# Altium integrated library Atmel Microcontroller AVR UC3.IntLib: 227 symbols (part 27 of 32)
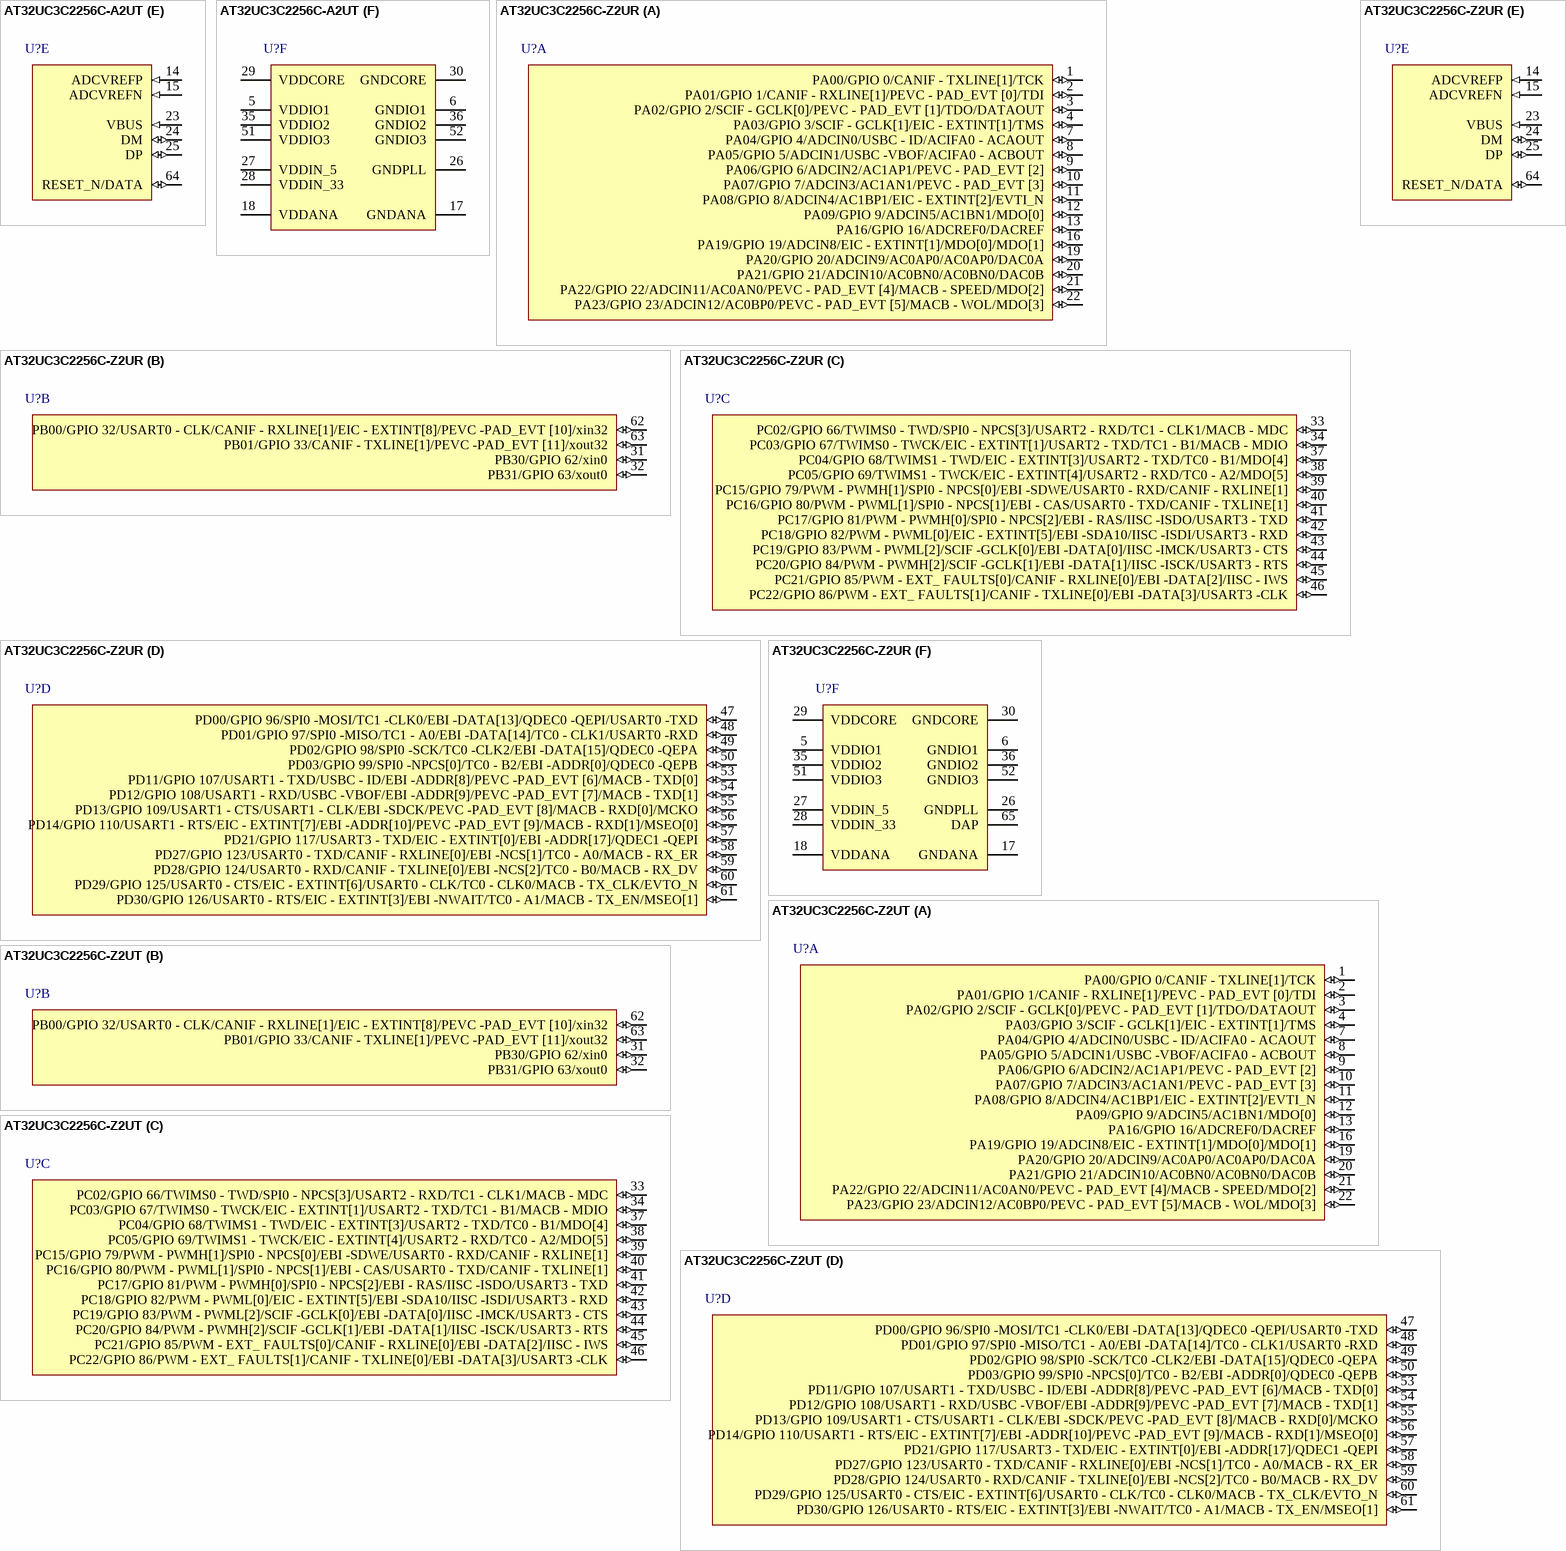
[diagram p157: symbols AT32UC3C2256C-A2UT to AT32UC3C2256C-Z2UT]

## AT32UC3C2256C-A2UT
designator U?
32-bit AVR UC3 C Series Microcontroller, 256KB Flash, 68KB SRAM, 45 GPIO pins, Industrial Grade, 64- Pin TQFP, Tray; DatasheetVersion: revC, Aug-2011; PackageVersion: 2011; PackageReference: TQFP64; PackageDescription: 64-Pin Thin Quad Flat Pack, 10 x 10 x 1.0 mm Body, 0.5 mm Pitch; Code_JEDEC: MS-026; ComponentLink1Description: Manufacturer URL; ComponentLink1URL: http://www.atmel.com/; ComponentLink2Description: AT32UC3C Datasheet; ComponentLink2URL: http://www.atmel.com/dyn/resources/prod_documents/doc32117.pdf; ComponentLink3Description: AT32UC3C Summary; ComponentLink3URL: http://www.atmel.com/dyn/resources/prod_documents/32117s.pdf
footprint TQFP64_N (Thin QFP, 64-Leads, Body 10x10mm, Pitch 0.5mm, IPC Medium Density)
footprint TQFP64_L (Thin QFP, 64-Leads, Body 10x10mm, Pitch 0.5mm, IPC High Density)
footprint TQFP64_M (Thin QFP, 64-Leads, Body 10x10mm, Pitch 0.5mm, IPC Low Density)
part A pins: 1 PA00/GPIO 0/CANIF - TXLINE[1]/TCK (io), 2 PA01/GPIO 1/CANIF - RXLINE[1]/PEVC - PAD_EVT [0]/TDI (io), 3 PA02/GPIO 2/SCIF - GCLK[0]/PEVC - PAD_EVT [1]/TDO/DATAOUT (io), 4 PA03/GPIO 3/SCIF - GCLK[1]/EIC - EXTINT[1]/TMS (io), 7 PA04/GPIO 4/ADCIN0/USBC - ID/ACIFA0 - ACAOUT (io), 8 PA05/GPIO 5/ADCIN1/USBC -VBOF/ACIFA0 - ACBOUT (io), 9 PA06/GPIO 6/ADCIN2/AC1AP1/PEVC - PAD_EVT [2] (io), 10 PA07/GPIO 7/ADCIN3/AC1AN1/PEVC - PAD_EVT [3] (io), 11 PA08/GPIO 8/ADCIN4/AC1BP1/EIC - EXTINT[2]/EVTI_N (io), 12 PA09/GPIO 9/ADCIN5/AC1BN1/MDO[0] (io), 13 PA16/GPIO 16/ADCREF0/DACREF (io), 16 PA19/GPIO 19/ADCIN8/EIC - EXTINT[1]/MDO[0]/MDO[1] (io), 19 PA20/GPIO 20/ADCIN9/AC0AP0/AC0AP0/DAC0A (io), 20 PA21/GPIO 21/ADCIN10/AC0BN0/AC0BN0/DAC0B (io), 21 PA22/GPIO 22/ADCIN11/AC0AN0/PEVC - PAD_EVT [4]/MACB - SPEED/MDO[2] (io), 22 PA23/GPIO 23/ADCIN12/AC0BP0/PEVC - PAD_EVT [5]/MACB - WOL/MDO[3] (io)
part B pins: 31 PB30/GPIO 62/xin0 (io), 32 PB31/GPIO 63/xout0 (io), 62 PB00/GPIO 32/USART0 - CLK/CANIF - RXLINE[1]/EIC - EXTINT[8]/PEVC -PAD_EVT [10]/xin32 (io), 63 PB01/GPIO 33/CANIF - TXLINE[1]/PEVC -PAD_EVT [11]/xout32 (io)
part C pins: 33 PC02/GPIO 66/TWIMS0 - TWD/SPI0 - NPCS[3]/USART2 - RXD/TC1 - CLK1/MACB - MDC (io), 34 PC03/GPIO 67/TWIMS0 - TWCK/EIC - EXTINT[1]/USART2 - TXD/TC1 - B1/MACB - MDIO (io), 37 PC04/GPIO 68/TWIMS1 - TWD/EIC - EXTINT[3]/USART2 - TXD/TC0 - B1/MDO[4] (io), 38 PC05/GPIO 69/TWIMS1 - TWCK/EIC - EXTINT[4]/USART2 - RXD/TC0 - A2/MDO[5] (io), 39 PC15/GPIO 79/PWM - PWMH[1]/SPI0 - NPCS[0]/EBI -SDWE/USART0 - RXD/CANIF - RXLINE[1] (io), 40 PC16/GPIO 80/PWM - PWML[1]/SPI0 - NPCS[1]/EBI - CAS/USART0 - TXD/CANIF - TXLINE[1] (io), 41 PC17/GPIO 81/PWM - PWMH[0]/SPI0 - NPCS[2]/EBI - RAS/IISC -ISDO/USART3 - TXD (io), 42 PC18/GPIO 82/PWM - PWML[0]/EIC - EXTINT[5]/EBI -SDA10/IISC -ISDI/USART3 - RXD (io), 43 PC19/GPIO 83/PWM - PWML[2]/SCIF -GCLK[0]/EBI -DATA[0]/IISC -IMCK/USART3 - CTS (io), 44 PC20/GPIO 84/PWM - PWMH[2]/SCIF -GCLK[1]/EBI -DATA[1]/IISC -ISCK/USART3 - RTS (io), 45 PC21/GPIO 85/PWM - EXT_ FAULTS[0]/CANIF - RXLINE[0]/EBI -DATA[2]/IISC - IWS (io), 46 PC22/GPIO 86/PWM - EXT_ FAULTS[1]/CANIF - TXLINE[0]/EBI -DATA[3]/USART3 -CLK (io)
part D pins: 47 PD00/GPIO 96/SPI0 -MOSI/TC1 -CLK0/EBI -DATA[13]/QDEC0 -QEPI/USART0 -TXD (io), 48 PD01/GPIO 97/SPI0 -MISO/TC1 - A0/EBI -DATA[14]/TC0 - CLK1/USART0 -RXD (io), 49 PD02/GPIO 98/SPI0 -SCK/TC0 -CLK2/EBI -DATA[15]/QDEC0 -QEPA (io), 50 PD03/GPIO 99/SPI0 -NPCS[0]/TC0 - B2/EBI -ADDR[0]/QDEC0 -QEPB (io), 53 PD11/GPIO 107/USART1 - TXD/USBC - ID/EBI -ADDR[8]/PEVC -PAD_EVT [6]/MACB - TXD[0] (io), 54 PD12/GPIO 108/USART1 - RXD/USBC -VBOF/EBI -ADDR[9]/PEVC -PAD_EVT [7]/MACB - TXD[1] (io), 55 PD13/GPIO 109/USART1 - CTS/USART1 - CLK/EBI -SDCK/PEVC -PAD_EVT [8]/MACB - RXD[0]/MCKO (io), 56 PD14/GPIO 110/USART1 - RTS/EIC - EXTINT[7]/EBI -ADDR[10]/PEVC -PAD_EVT [9]/MACB - RXD[1]/MSEO[0] (io), 57 PD21/GPIO 117/USART3 - TXD/EIC - EXTINT[0]/EBI -ADDR[17]/QDEC1 -QEPI (io), 58 PD27/GPIO 123/USART0 - TXD/CANIF - RXLINE[0]/EBI -NCS[1]/TC0 - A0/MACB - RX_ER (io), 59 PD28/GPIO 124/USART0 - RXD/CANIF - TXLINE[0]/EBI -NCS[2]/TC0 - B0/MACB - RX_DV (io), 60 PD29/GPIO 125/USART0 - CTS/EIC - EXTINT[6]/USART0 - CLK/TC0 - CLK0/MACB - TX_CLK/EVTO_N (io), 61 PD30/GPIO 126/USART0 - RTS/EIC - EXTINT[3]/EBI -NWAIT/TC0 - A1/MACB - TX_EN/MSEO[1] (io)
part E pins: 14 ADCVREFP (in), 15 ADCVREFN (in), 23 VBUS (in), 24 DM (io), 25 DP (io), 64 RESET_N/DATA (io)
part F pins: 5 VDDIO1 (power), 6 GNDIO1 (power), 17 GNDANA (power), 18 VDDANA (power), 26 GNDPLL (power), 27 VDDIN_5 (power), 28 VDDIN_33 (power), 29 VDDCORE (power), 30 GNDCORE (power), 35 VDDIO2 (power), 36 GNDIO2 (power), 51 VDDIO3 (power), 52 GNDIO3 (power)

## AT32UC3C2256C-Z2UR
designator U?
32-bit AVR UC3 C Series Microcontroller, 256KB Flash, 68KB SRAM, 45 GPIO pins, Industrial Grade, 64- Pin QFN, Reel; DatasheetVersion: revC, Aug-2011; PackageVersion: 2011; PackageReference: Z64-2; PackageDescription: 64-Pin Quad Flat No-Lead, 9 x 9 mm Body, 0.5 mm Pitch, 6 x 6 mm Exposed Pad; Code_JEDEC: MO-220VMMD-3; ComponentLink1Description: Manufacturer URL; ComponentLink1URL: http://www.atmel.com/; ComponentLink2Description: AT32UC3C Datasheet; ComponentLink2URL: http://www.atmel.com/dyn/resources/prod_documents/doc32117.pdf; ComponentLink3Description: AT32UC3C Summary; ComponentLink3URL: http://www.atmel.com/dyn/resources/prod_documents/32117s.pdf
footprint Z64-2_N (QFN, 64-Leads, Body 9x9mm, Pitch 0.5mm, Thermal Pad 6.1x6.1mm, IPC Medium Density)
footprint Z64-2_L (QFN, 64-Leads, Body 9x9mm, Pitch 0.5mm, Thermal Pad 6.1x6.1mm, IPC High Density)
footprint Z64-2_M (QFN, 64-Leads, Body 9x9mm, Pitch 0.5mm, Thermal Pad 6.1x6.1mm, IPC Low Density)
part A pins: 1 PA00/GPIO 0/CANIF - TXLINE[1]/TCK (io), 2 PA01/GPIO 1/CANIF - RXLINE[1]/PEVC - PAD_EVT [0]/TDI (io), 3 PA02/GPIO 2/SCIF - GCLK[0]/PEVC - PAD_EVT [1]/TDO/DATAOUT (io), 4 PA03/GPIO 3/SCIF - GCLK[1]/EIC - EXTINT[1]/TMS (io), 7 PA04/GPIO 4/ADCIN0/USBC - ID/ACIFA0 - ACAOUT (io), 8 PA05/GPIO 5/ADCIN1/USBC -VBOF/ACIFA0 - ACBOUT (io), 9 PA06/GPIO 6/ADCIN2/AC1AP1/PEVC - PAD_EVT [2] (io), 10 PA07/GPIO 7/ADCIN3/AC1AN1/PEVC - PAD_EVT [3] (io), 11 PA08/GPIO 8/ADCIN4/AC1BP1/EIC - EXTINT[2]/EVTI_N (io), 12 PA09/GPIO 9/ADCIN5/AC1BN1/MDO[0] (io), 13 PA16/GPIO 16/ADCREF0/DACREF (io), 16 PA19/GPIO 19/ADCIN8/EIC - EXTINT[1]/MDO[0]/MDO[1] (io), 19 PA20/GPIO 20/ADCIN9/AC0AP0/AC0AP0/DAC0A (io), 20 PA21/GPIO 21/ADCIN10/AC0BN0/AC0BN0/DAC0B (io), 21 PA22/GPIO 22/ADCIN11/AC0AN0/PEVC - PAD_EVT [4]/MACB - SPEED/MDO[2] (io), 22 PA23/GPIO 23/ADCIN12/AC0BP0/PEVC - PAD_EVT [5]/MACB - WOL/MDO[3] (io)
part B pins: 31 PB30/GPIO 62/xin0 (io), 32 PB31/GPIO 63/xout0 (io), 62 PB00/GPIO 32/USART0 - CLK/CANIF - RXLINE[1]/EIC - EXTINT[8]/PEVC -PAD_EVT [10]/xin32 (io), 63 PB01/GPIO 33/CANIF - TXLINE[1]/PEVC -PAD_EVT [11]/xout32 (io)
part C pins: 33 PC02/GPIO 66/TWIMS0 - TWD/SPI0 - NPCS[3]/USART2 - RXD/TC1 - CLK1/MACB - MDC (io), 34 PC03/GPIO 67/TWIMS0 - TWCK/EIC - EXTINT[1]/USART2 - TXD/TC1 - B1/MACB - MDIO (io), 37 PC04/GPIO 68/TWIMS1 - TWD/EIC - EXTINT[3]/USART2 - TXD/TC0 - B1/MDO[4] (io), 38 PC05/GPIO 69/TWIMS1 - TWCK/EIC - EXTINT[4]/USART2 - RXD/TC0 - A2/MDO[5] (io), 39 PC15/GPIO 79/PWM - PWMH[1]/SPI0 - NPCS[0]/EBI -SDWE/USART0 - RXD/CANIF - RXLINE[1] (io), 40 PC16/GPIO 80/PWM - PWML[1]/SPI0 - NPCS[1]/EBI - CAS/USART0 - TXD/CANIF - TXLINE[1] (io), 41 PC17/GPIO 81/PWM - PWMH[0]/SPI0 - NPCS[2]/EBI - RAS/IISC -ISDO/USART3 - TXD (io), 42 PC18/GPIO 82/PWM - PWML[0]/EIC - EXTINT[5]/EBI -SDA10/IISC -ISDI/USART3 - RXD (io), 43 PC19/GPIO 83/PWM - PWML[2]/SCIF -GCLK[0]/EBI -DATA[0]/IISC -IMCK/USART3 - CTS (io), 44 PC20/GPIO 84/PWM - PWMH[2]/SCIF -GCLK[1]/EBI -DATA[1]/IISC -ISCK/USART3 - RTS (io), 45 PC21/GPIO 85/PWM - EXT_ FAULTS[0]/CANIF - RXLINE[0]/EBI -DATA[2]/IISC - IWS (io), 46 PC22/GPIO 86/PWM - EXT_ FAULTS[1]/CANIF - TXLINE[0]/EBI -DATA[3]/USART3 -CLK (io)
part D pins: 47 PD00/GPIO 96/SPI0 -MOSI/TC1 -CLK0/EBI -DATA[13]/QDEC0 -QEPI/USART0 -TXD (io), 48 PD01/GPIO 97/SPI0 -MISO/TC1 - A0/EBI -DATA[14]/TC0 - CLK1/USART0 -RXD (io), 49 PD02/GPIO 98/SPI0 -SCK/TC0 -CLK2/EBI -DATA[15]/QDEC0 -QEPA (io), 50 PD03/GPIO 99/SPI0 -NPCS[0]/TC0 - B2/EBI -ADDR[0]/QDEC0 -QEPB (io), 53 PD11/GPIO 107/USART1 - TXD/USBC - ID/EBI -ADDR[8]/PEVC -PAD_EVT [6]/MACB - TXD[0] (io), 54 PD12/GPIO 108/USART1 - RXD/USBC -VBOF/EBI -ADDR[9]/PEVC -PAD_EVT [7]/MACB - TXD[1] (io), 55 PD13/GPIO 109/USART1 - CTS/USART1 - CLK/EBI -SDCK/PEVC -PAD_EVT [8]/MACB - RXD[0]/MCKO (io), 56 PD14/GPIO 110/USART1 - RTS/EIC - EXTINT[7]/EBI -ADDR[10]/PEVC -PAD_EVT [9]/MACB - RXD[1]/MSEO[0] (io), 57 PD21/GPIO 117/USART3 - TXD/EIC - EXTINT[0]/EBI -ADDR[17]/QDEC1 -QEPI (io), 58 PD27/GPIO 123/USART0 - TXD/CANIF - RXLINE[0]/EBI -NCS[1]/TC0 - A0/MACB - RX_ER (io), 59 PD28/GPIO 124/USART0 - RXD/CANIF - TXLINE[0]/EBI -NCS[2]/TC0 - B0/MACB - RX_DV (io), 60 PD29/GPIO 125/USART0 - CTS/EIC - EXTINT[6]/USART0 - CLK/TC0 - CLK0/MACB - TX_CLK/EVTO_N (io), 61 PD30/GPIO 126/USART0 - RTS/EIC - EXTINT[3]/EBI -NWAIT/TC0 - A1/MACB - TX_EN/MSEO[1] (io)
part E pins: 14 ADCVREFP (in), 15 ADCVREFN (in), 23 VBUS (in), 24 DM (io), 25 DP (io), 64 RESET_N/DATA (io)
part F pins: 5 VDDIO1 (power), 6 GNDIO1 (power), 17 GNDANA (power), 18 VDDANA (power), 26 GNDPLL (power), 27 VDDIN_5 (power), 28 VDDIN_33 (power), 29 VDDCORE (power), 30 GNDCORE (power), 35 VDDIO2 (power), 36 GNDIO2 (power), 51 VDDIO3 (power), 52 GNDIO3 (power), 65 DAP (power)

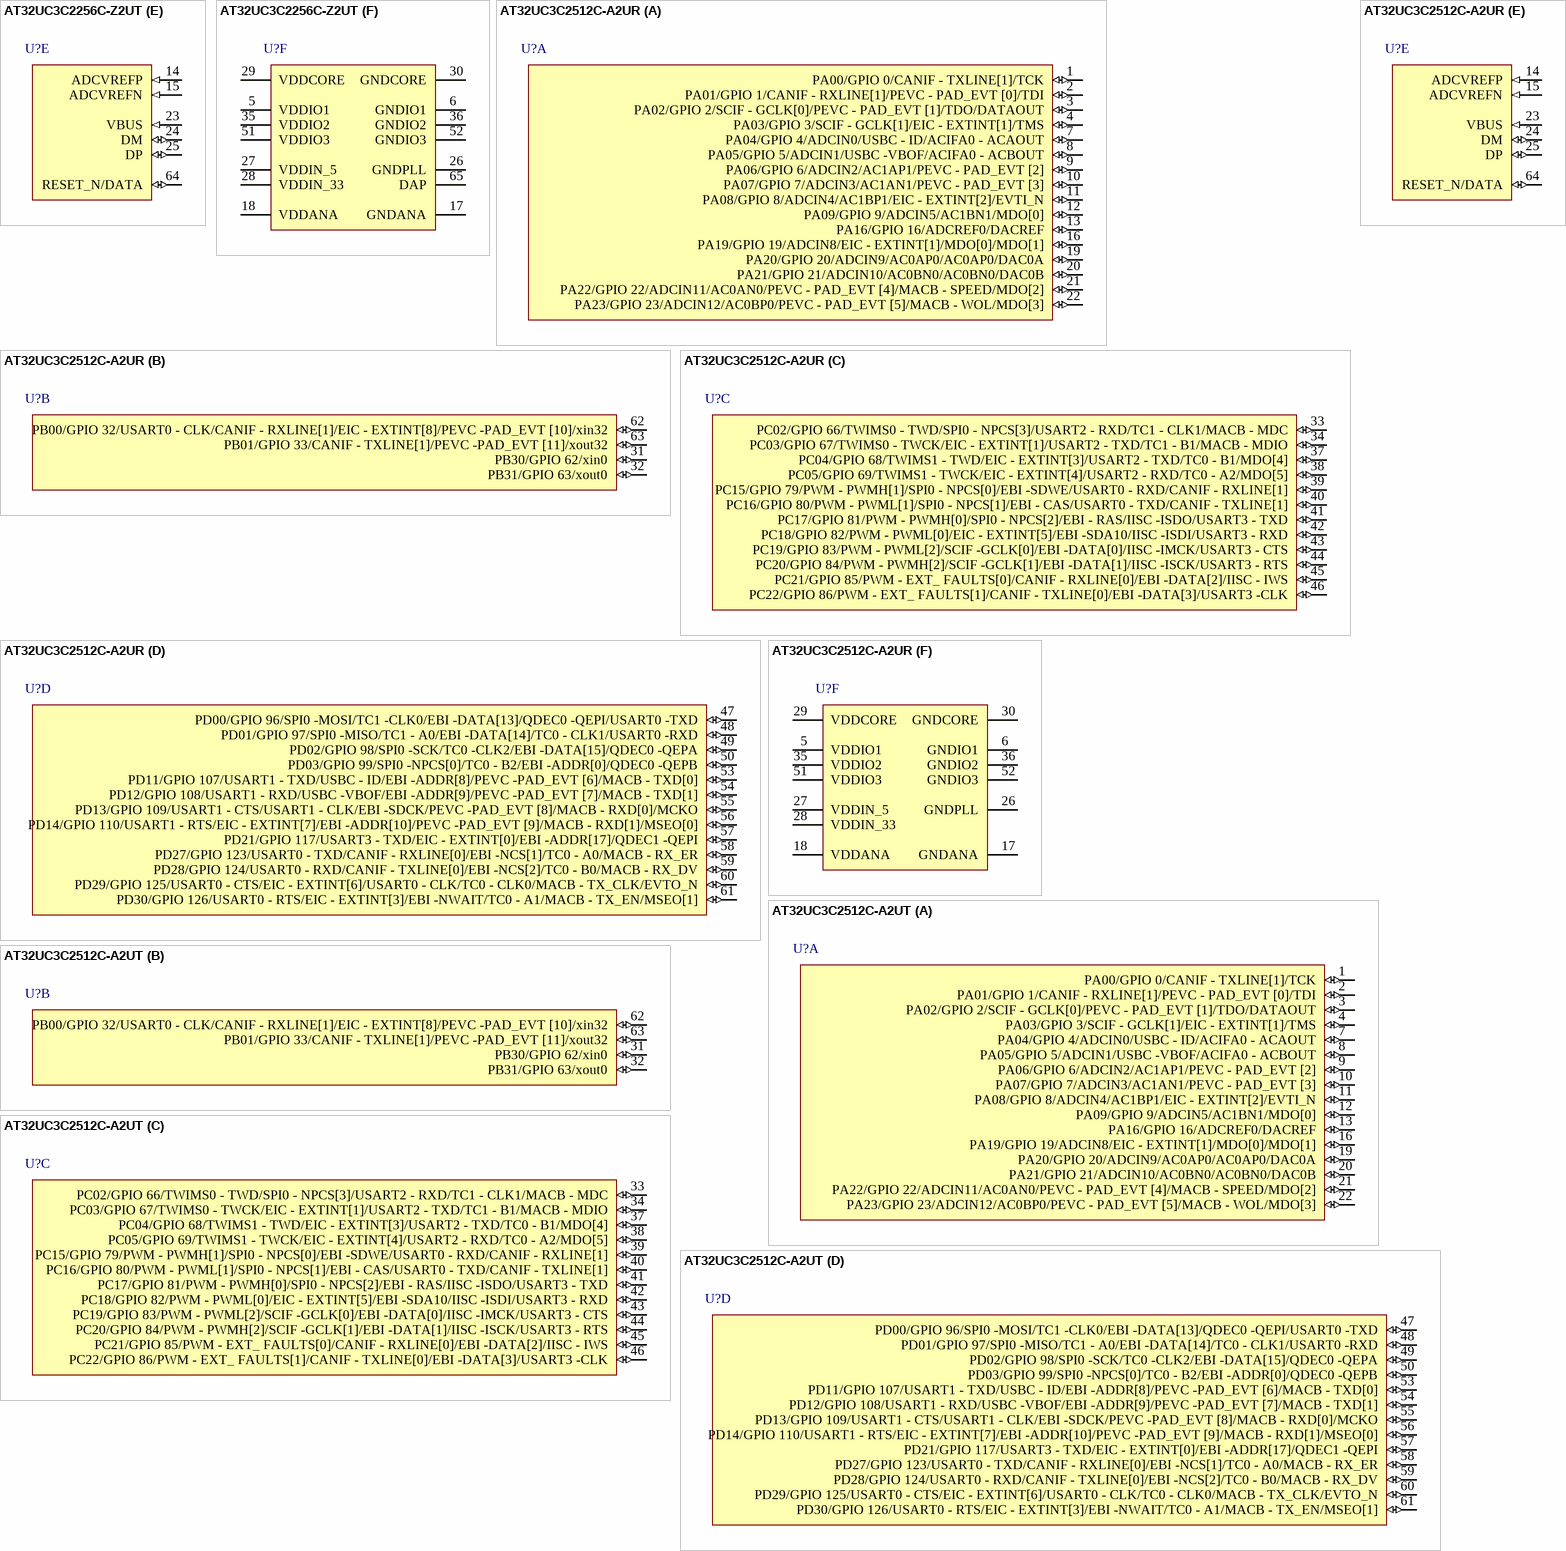
[diagram p91: symbols AT32UC3C2256C-Z2UT to AT32UC3C2512C-A2UT]

## AT32UC3C2256C-Z2UT
designator U?
32-bit AVR UC3 C Series Microcontroller, 256KB Flash, 68KB SRAM, 45 GPIO pins, Industrial Grade, 64- Pin QFN, Tray; DatasheetVersion: revC, Aug-2011; PackageVersion: 2011; PackageReference: Z64-2; PackageDescription: 64-Pin Quad Flat No-Lead, 9 x 9 mm Body, 0.5 mm Pitch, 6 x 6 mm Exposed Pad; Code_JEDEC: MO-220VMMD-3; ComponentLink1Description: Manufacturer URL; ComponentLink1URL: http://www.atmel.com/; ComponentLink2Description: AT32UC3C Datasheet; ComponentLink2URL: http://www.atmel.com/dyn/resources/prod_documents/doc32117.pdf; ComponentLink3Description: AT32UC3C Summary; ComponentLink3URL: http://www.atmel.com/dyn/resources/prod_documents/32117s.pdf
footprint Z64-2_N (QFN, 64-Leads, Body 9x9mm, Pitch 0.5mm, Thermal Pad 6.1x6.1mm, IPC Medium Density)
footprint Z64-2_L (QFN, 64-Leads, Body 9x9mm, Pitch 0.5mm, Thermal Pad 6.1x6.1mm, IPC High Density)
footprint Z64-2_M (QFN, 64-Leads, Body 9x9mm, Pitch 0.5mm, Thermal Pad 6.1x6.1mm, IPC Low Density)
part A pins: 1 PA00/GPIO 0/CANIF - TXLINE[1]/TCK (io), 2 PA01/GPIO 1/CANIF - RXLINE[1]/PEVC - PAD_EVT [0]/TDI (io), 3 PA02/GPIO 2/SCIF - GCLK[0]/PEVC - PAD_EVT [1]/TDO/DATAOUT (io), 4 PA03/GPIO 3/SCIF - GCLK[1]/EIC - EXTINT[1]/TMS (io), 7 PA04/GPIO 4/ADCIN0/USBC - ID/ACIFA0 - ACAOUT (io), 8 PA05/GPIO 5/ADCIN1/USBC -VBOF/ACIFA0 - ACBOUT (io), 9 PA06/GPIO 6/ADCIN2/AC1AP1/PEVC - PAD_EVT [2] (io), 10 PA07/GPIO 7/ADCIN3/AC1AN1/PEVC - PAD_EVT [3] (io), 11 PA08/GPIO 8/ADCIN4/AC1BP1/EIC - EXTINT[2]/EVTI_N (io), 12 PA09/GPIO 9/ADCIN5/AC1BN1/MDO[0] (io), 13 PA16/GPIO 16/ADCREF0/DACREF (io), 16 PA19/GPIO 19/ADCIN8/EIC - EXTINT[1]/MDO[0]/MDO[1] (io), 19 PA20/GPIO 20/ADCIN9/AC0AP0/AC0AP0/DAC0A (io), 20 PA21/GPIO 21/ADCIN10/AC0BN0/AC0BN0/DAC0B (io), 21 PA22/GPIO 22/ADCIN11/AC0AN0/PEVC - PAD_EVT [4]/MACB - SPEED/MDO[2] (io), 22 PA23/GPIO 23/ADCIN12/AC0BP0/PEVC - PAD_EVT [5]/MACB - WOL/MDO[3] (io)
part B pins: 31 PB30/GPIO 62/xin0 (io), 32 PB31/GPIO 63/xout0 (io), 62 PB00/GPIO 32/USART0 - CLK/CANIF - RXLINE[1]/EIC - EXTINT[8]/PEVC -PAD_EVT [10]/xin32 (io), 63 PB01/GPIO 33/CANIF - TXLINE[1]/PEVC -PAD_EVT [11]/xout32 (io)
part C pins: 33 PC02/GPIO 66/TWIMS0 - TWD/SPI0 - NPCS[3]/USART2 - RXD/TC1 - CLK1/MACB - MDC (io), 34 PC03/GPIO 67/TWIMS0 - TWCK/EIC - EXTINT[1]/USART2 - TXD/TC1 - B1/MACB - MDIO (io), 37 PC04/GPIO 68/TWIMS1 - TWD/EIC - EXTINT[3]/USART2 - TXD/TC0 - B1/MDO[4] (io), 38 PC05/GPIO 69/TWIMS1 - TWCK/EIC - EXTINT[4]/USART2 - RXD/TC0 - A2/MDO[5] (io), 39 PC15/GPIO 79/PWM - PWMH[1]/SPI0 - NPCS[0]/EBI -SDWE/USART0 - RXD/CANIF - RXLINE[1] (io), 40 PC16/GPIO 80/PWM - PWML[1]/SPI0 - NPCS[1]/EBI - CAS/USART0 - TXD/CANIF - TXLINE[1] (io), 41 PC17/GPIO 81/PWM - PWMH[0]/SPI0 - NPCS[2]/EBI - RAS/IISC -ISDO/USART3 - TXD (io), 42 PC18/GPIO 82/PWM - PWML[0]/EIC - EXTINT[5]/EBI -SDA10/IISC -ISDI/USART3 - RXD (io), 43 PC19/GPIO 83/PWM - PWML[2]/SCIF -GCLK[0]/EBI -DATA[0]/IISC -IMCK/USART3 - CTS (io), 44 PC20/GPIO 84/PWM - PWMH[2]/SCIF -GCLK[1]/EBI -DATA[1]/IISC -ISCK/USART3 - RTS (io), 45 PC21/GPIO 85/PWM - EXT_ FAULTS[0]/CANIF - RXLINE[0]/EBI -DATA[2]/IISC - IWS (io), 46 PC22/GPIO 86/PWM - EXT_ FAULTS[1]/CANIF - TXLINE[0]/EBI -DATA[3]/USART3 -CLK (io)
part D pins: 47 PD00/GPIO 96/SPI0 -MOSI/TC1 -CLK0/EBI -DATA[13]/QDEC0 -QEPI/USART0 -TXD (io), 48 PD01/GPIO 97/SPI0 -MISO/TC1 - A0/EBI -DATA[14]/TC0 - CLK1/USART0 -RXD (io), 49 PD02/GPIO 98/SPI0 -SCK/TC0 -CLK2/EBI -DATA[15]/QDEC0 -QEPA (io), 50 PD03/GPIO 99/SPI0 -NPCS[0]/TC0 - B2/EBI -ADDR[0]/QDEC0 -QEPB (io), 53 PD11/GPIO 107/USART1 - TXD/USBC - ID/EBI -ADDR[8]/PEVC -PAD_EVT [6]/MACB - TXD[0] (io), 54 PD12/GPIO 108/USART1 - RXD/USBC -VBOF/EBI -ADDR[9]/PEVC -PAD_EVT [7]/MACB - TXD[1] (io), 55 PD13/GPIO 109/USART1 - CTS/USART1 - CLK/EBI -SDCK/PEVC -PAD_EVT [8]/MACB - RXD[0]/MCKO (io), 56 PD14/GPIO 110/USART1 - RTS/EIC - EXTINT[7]/EBI -ADDR[10]/PEVC -PAD_EVT [9]/MACB - RXD[1]/MSEO[0] (io), 57 PD21/GPIO 117/USART3 - TXD/EIC - EXTINT[0]/EBI -ADDR[17]/QDEC1 -QEPI (io), 58 PD27/GPIO 123/USART0 - TXD/CANIF - RXLINE[0]/EBI -NCS[1]/TC0 - A0/MACB - RX_ER (io), 59 PD28/GPIO 124/USART0 - RXD/CANIF - TXLINE[0]/EBI -NCS[2]/TC0 - B0/MACB - RX_DV (io), 60 PD29/GPIO 125/USART0 - CTS/EIC - EXTINT[6]/USART0 - CLK/TC0 - CLK0/MACB - TX_CLK/EVTO_N (io), 61 PD30/GPIO 126/USART0 - RTS/EIC - EXTINT[3]/EBI -NWAIT/TC0 - A1/MACB - TX_EN/MSEO[1] (io)
part E pins: 14 ADCVREFP (in), 15 ADCVREFN (in), 23 VBUS (in), 24 DM (io), 25 DP (io), 64 RESET_N/DATA (io)
part F pins: 5 VDDIO1 (power), 6 GNDIO1 (power), 17 GNDANA (power), 18 VDDANA (power), 26 GNDPLL (power), 27 VDDIN_5 (power), 28 VDDIN_33 (power), 29 VDDCORE (power), 30 GNDCORE (power), 35 VDDIO2 (power), 36 GNDIO2 (power), 51 VDDIO3 (power), 52 GNDIO3 (power), 65 DAP (power)

## AT32UC3C2512C-A2UR
designator U?
32-bit AVR UC3 C Series Microcontroller, 512KB Flash, 68KB SRAM, 45 GPIO pins, Industrial Grade, 64- Pin TQFP, Reel; DatasheetVersion: revC, Aug-2011; PackageVersion: 2011; PackageReference: TQFP64; PackageDescription: 64-Pin Thin Quad Flat Pack, 10 x 10 x 1.0 mm Body, 0.5 mm Pitch; Code_JEDEC: MS-026; ComponentLink1Description: Manufacturer URL; ComponentLink1URL: http://www.atmel.com/; ComponentLink2Description: AT32UC3C Datasheet; ComponentLink2URL: http://www.atmel.com/dyn/resources/prod_documents/doc32117.pdf; ComponentLink3Description: AT32UC3C Summary; ComponentLink3URL: http://www.atmel.com/dyn/resources/prod_documents/32117s.pdf
footprint TQFP64_N (Thin QFP, 64-Leads, Body 10x10mm, Pitch 0.5mm, IPC Medium Density)
footprint TQFP64_L (Thin QFP, 64-Leads, Body 10x10mm, Pitch 0.5mm, IPC High Density)
footprint TQFP64_M (Thin QFP, 64-Leads, Body 10x10mm, Pitch 0.5mm, IPC Low Density)
part A pins: 1 PA00/GPIO 0/CANIF - TXLINE[1]/TCK (io), 2 PA01/GPIO 1/CANIF - RXLINE[1]/PEVC - PAD_EVT [0]/TDI (io), 3 PA02/GPIO 2/SCIF - GCLK[0]/PEVC - PAD_EVT [1]/TDO/DATAOUT (io), 4 PA03/GPIO 3/SCIF - GCLK[1]/EIC - EXTINT[1]/TMS (io), 7 PA04/GPIO 4/ADCIN0/USBC - ID/ACIFA0 - ACAOUT (io), 8 PA05/GPIO 5/ADCIN1/USBC -VBOF/ACIFA0 - ACBOUT (io), 9 PA06/GPIO 6/ADCIN2/AC1AP1/PEVC - PAD_EVT [2] (io), 10 PA07/GPIO 7/ADCIN3/AC1AN1/PEVC - PAD_EVT [3] (io), 11 PA08/GPIO 8/ADCIN4/AC1BP1/EIC - EXTINT[2]/EVTI_N (io), 12 PA09/GPIO 9/ADCIN5/AC1BN1/MDO[0] (io), 13 PA16/GPIO 16/ADCREF0/DACREF (io), 16 PA19/GPIO 19/ADCIN8/EIC - EXTINT[1]/MDO[0]/MDO[1] (io), 19 PA20/GPIO 20/ADCIN9/AC0AP0/AC0AP0/DAC0A (io), 20 PA21/GPIO 21/ADCIN10/AC0BN0/AC0BN0/DAC0B (io), 21 PA22/GPIO 22/ADCIN11/AC0AN0/PEVC - PAD_EVT [4]/MACB - SPEED/MDO[2] (io), 22 PA23/GPIO 23/ADCIN12/AC0BP0/PEVC - PAD_EVT [5]/MACB - WOL/MDO[3] (io)
part B pins: 31 PB30/GPIO 62/xin0 (io), 32 PB31/GPIO 63/xout0 (io), 62 PB00/GPIO 32/USART0 - CLK/CANIF - RXLINE[1]/EIC - EXTINT[8]/PEVC -PAD_EVT [10]/xin32 (io), 63 PB01/GPIO 33/CANIF - TXLINE[1]/PEVC -PAD_EVT [11]/xout32 (io)
part C pins: 33 PC02/GPIO 66/TWIMS0 - TWD/SPI0 - NPCS[3]/USART2 - RXD/TC1 - CLK1/MACB - MDC (io), 34 PC03/GPIO 67/TWIMS0 - TWCK/EIC - EXTINT[1]/USART2 - TXD/TC1 - B1/MACB - MDIO (io), 37 PC04/GPIO 68/TWIMS1 - TWD/EIC - EXTINT[3]/USART2 - TXD/TC0 - B1/MDO[4] (io), 38 PC05/GPIO 69/TWIMS1 - TWCK/EIC - EXTINT[4]/USART2 - RXD/TC0 - A2/MDO[5] (io), 39 PC15/GPIO 79/PWM - PWMH[1]/SPI0 - NPCS[0]/EBI -SDWE/USART0 - RXD/CANIF - RXLINE[1] (io), 40 PC16/GPIO 80/PWM - PWML[1]/SPI0 - NPCS[1]/EBI - CAS/USART0 - TXD/CANIF - TXLINE[1] (io), 41 PC17/GPIO 81/PWM - PWMH[0]/SPI0 - NPCS[2]/EBI - RAS/IISC -ISDO/USART3 - TXD (io), 42 PC18/GPIO 82/PWM - PWML[0]/EIC - EXTINT[5]/EBI -SDA10/IISC -ISDI/USART3 - RXD (io), 43 PC19/GPIO 83/PWM - PWML[2]/SCIF -GCLK[0]/EBI -DATA[0]/IISC -IMCK/USART3 - CTS (io), 44 PC20/GPIO 84/PWM - PWMH[2]/SCIF -GCLK[1]/EBI -DATA[1]/IISC -ISCK/USART3 - RTS (io), 45 PC21/GPIO 85/PWM - EXT_ FAULTS[0]/CANIF - RXLINE[0]/EBI -DATA[2]/IISC - IWS (io), 46 PC22/GPIO 86/PWM - EXT_ FAULTS[1]/CANIF - TXLINE[0]/EBI -DATA[3]/USART3 -CLK (io)
part D pins: 47 PD00/GPIO 96/SPI0 -MOSI/TC1 -CLK0/EBI -DATA[13]/QDEC0 -QEPI/USART0 -TXD (io), 48 PD01/GPIO 97/SPI0 -MISO/TC1 - A0/EBI -DATA[14]/TC0 - CLK1/USART0 -RXD (io), 49 PD02/GPIO 98/SPI0 -SCK/TC0 -CLK2/EBI -DATA[15]/QDEC0 -QEPA (io), 50 PD03/GPIO 99/SPI0 -NPCS[0]/TC0 - B2/EBI -ADDR[0]/QDEC0 -QEPB (io), 53 PD11/GPIO 107/USART1 - TXD/USBC - ID/EBI -ADDR[8]/PEVC -PAD_EVT [6]/MACB - TXD[0] (io), 54 PD12/GPIO 108/USART1 - RXD/USBC -VBOF/EBI -ADDR[9]/PEVC -PAD_EVT [7]/MACB - TXD[1] (io), 55 PD13/GPIO 109/USART1 - CTS/USART1 - CLK/EBI -SDCK/PEVC -PAD_EVT [8]/MACB - RXD[0]/MCKO (io), 56 PD14/GPIO 110/USART1 - RTS/EIC - EXTINT[7]/EBI -ADDR[10]/PEVC -PAD_EVT [9]/MACB - RXD[1]/MSEO[0] (io), 57 PD21/GPIO 117/USART3 - TXD/EIC - EXTINT[0]/EBI -ADDR[17]/QDEC1 -QEPI (io), 58 PD27/GPIO 123/USART0 - TXD/CANIF - RXLINE[0]/EBI -NCS[1]/TC0 - A0/MACB - RX_ER (io), 59 PD28/GPIO 124/USART0 - RXD/CANIF - TXLINE[0]/EBI -NCS[2]/TC0 - B0/MACB - RX_DV (io), 60 PD29/GPIO 125/USART0 - CTS/EIC - EXTINT[6]/USART0 - CLK/TC0 - CLK0/MACB - TX_CLK/EVTO_N (io), 61 PD30/GPIO 126/USART0 - RTS/EIC - EXTINT[3]/EBI -NWAIT/TC0 - A1/MACB - TX_EN/MSEO[1] (io)
part E pins: 14 ADCVREFP (in), 15 ADCVREFN (in), 23 VBUS (in), 24 DM (io), 25 DP (io), 64 RESET_N/DATA (io)
part F pins: 5 VDDIO1 (power), 6 GNDIO1 (power), 17 GNDANA (power), 18 VDDANA (power), 26 GNDPLL (power), 27 VDDIN_5 (power), 28 VDDIN_33 (power), 29 VDDCORE (power), 30 GNDCORE (power), 35 VDDIO2 (power), 36 GNDIO2 (power), 51 VDDIO3 (power), 52 GNDIO3 (power)

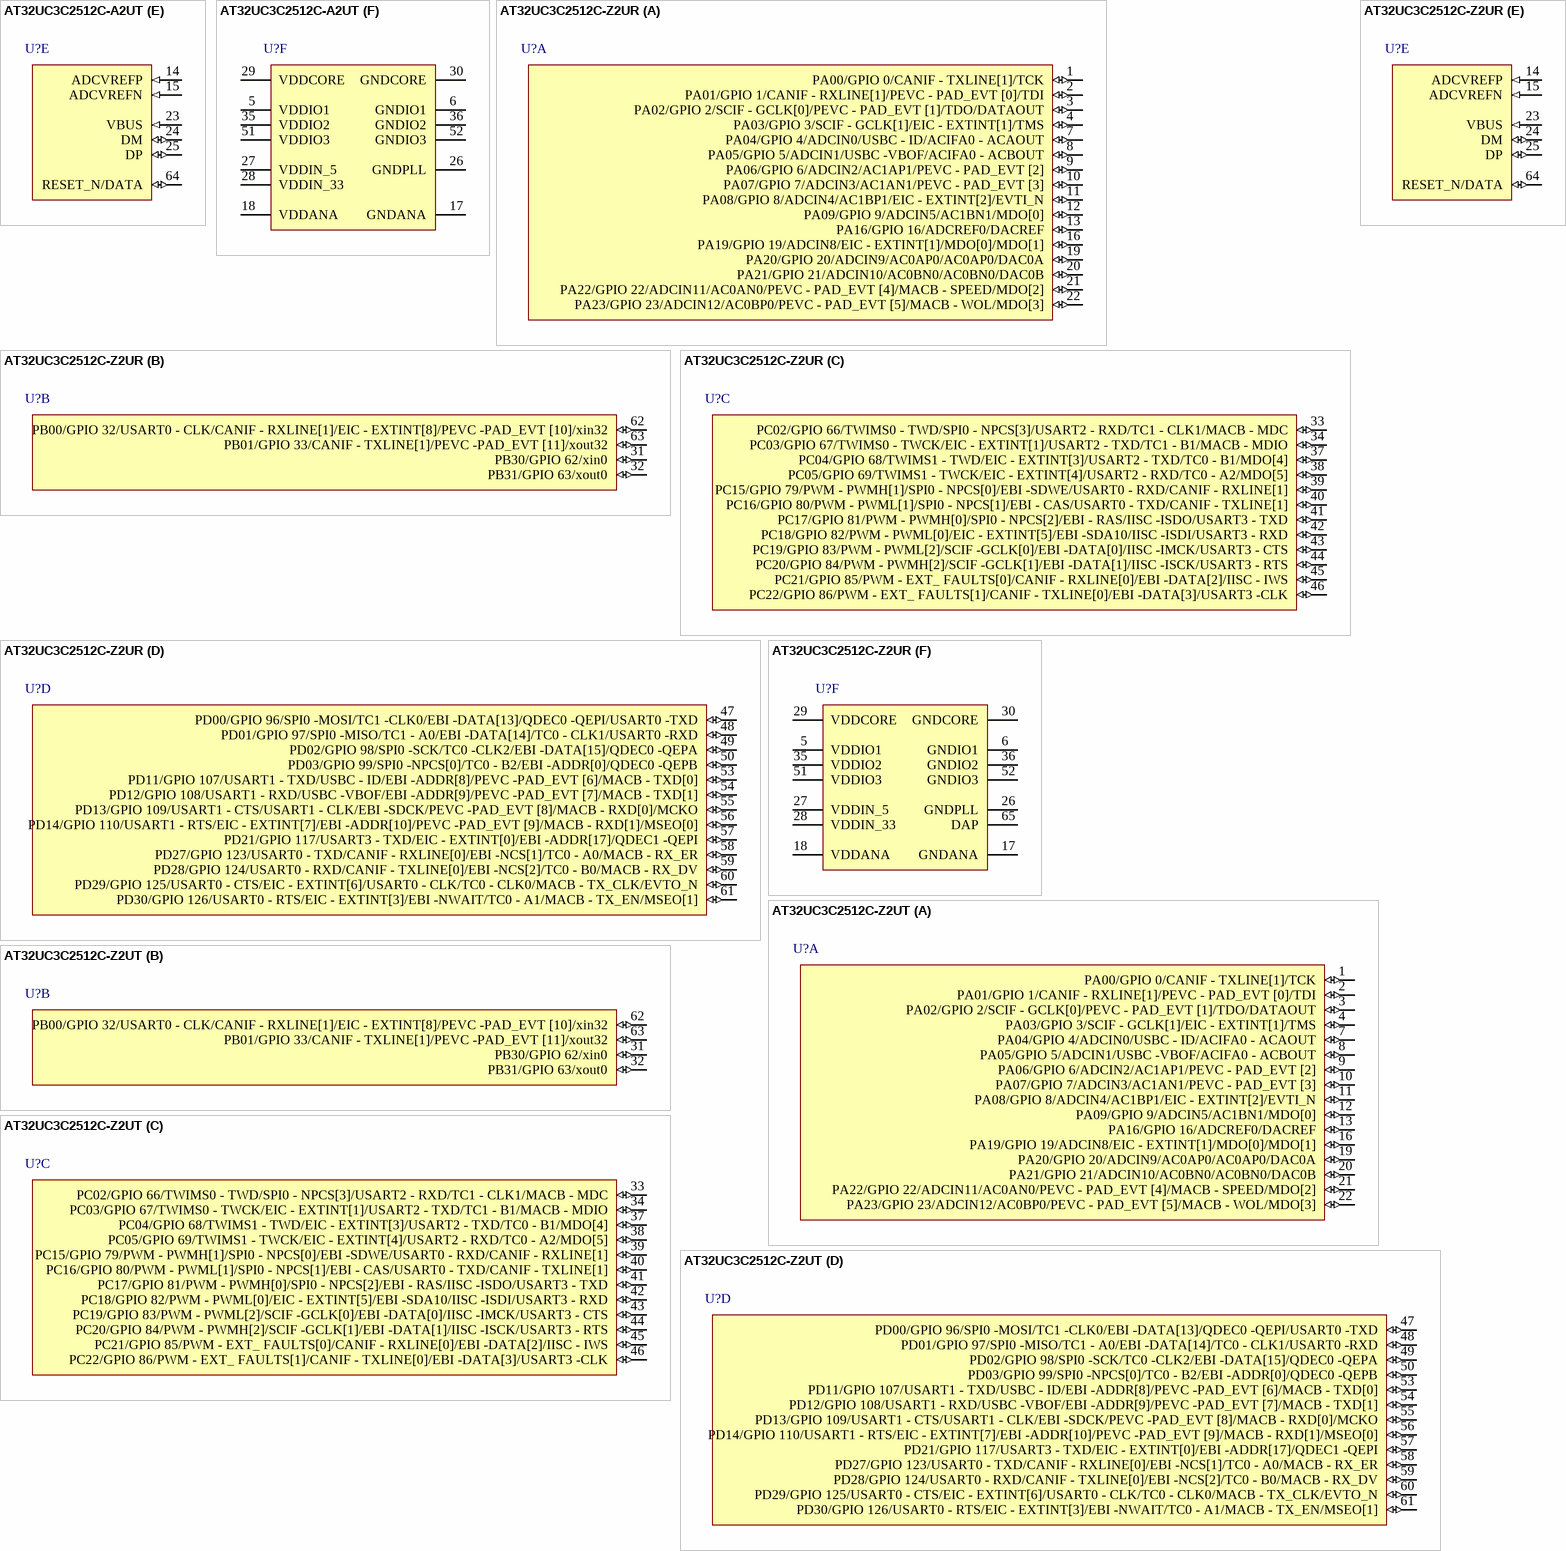
[diagram p92: symbols AT32UC3C2512C-A2UT to AT32UC3C2512C-Z2UT]

## AT32UC3C2512C-A2UT
designator U?
32-bit AVR UC3 C Series Microcontroller, 512KB Flash, 68KB SRAM, 45 GPIO pins, Industrial Grade, 64- Pin TQFP, Tray; DatasheetVersion: revC, Aug-2011; PackageVersion: 2011; PackageReference: TQFP64; PackageDescription: 64-Pin Thin Quad Flat Pack, 10 x 10 x 1.0 mm Body, 0.5 mm Pitch; Code_JEDEC: MS-026; ComponentLink1Description: Manufacturer URL; ComponentLink1URL: http://www.atmel.com/; ComponentLink2Description: AT32UC3C Datasheet; ComponentLink2URL: http://www.atmel.com/dyn/resources/prod_documents/doc32117.pdf; ComponentLink3Description: AT32UC3C Summary; ComponentLink3URL: http://www.atmel.com/dyn/resources/prod_documents/32117s.pdf
footprint TQFP64_N (Thin QFP, 64-Leads, Body 10x10mm, Pitch 0.5mm, IPC Medium Density)
footprint TQFP64_L (Thin QFP, 64-Leads, Body 10x10mm, Pitch 0.5mm, IPC High Density)
footprint TQFP64_M (Thin QFP, 64-Leads, Body 10x10mm, Pitch 0.5mm, IPC Low Density)
part A pins: 1 PA00/GPIO 0/CANIF - TXLINE[1]/TCK (io), 2 PA01/GPIO 1/CANIF - RXLINE[1]/PEVC - PAD_EVT [0]/TDI (io), 3 PA02/GPIO 2/SCIF - GCLK[0]/PEVC - PAD_EVT [1]/TDO/DATAOUT (io), 4 PA03/GPIO 3/SCIF - GCLK[1]/EIC - EXTINT[1]/TMS (io), 7 PA04/GPIO 4/ADCIN0/USBC - ID/ACIFA0 - ACAOUT (io), 8 PA05/GPIO 5/ADCIN1/USBC -VBOF/ACIFA0 - ACBOUT (io), 9 PA06/GPIO 6/ADCIN2/AC1AP1/PEVC - PAD_EVT [2] (io), 10 PA07/GPIO 7/ADCIN3/AC1AN1/PEVC - PAD_EVT [3] (io), 11 PA08/GPIO 8/ADCIN4/AC1BP1/EIC - EXTINT[2]/EVTI_N (io), 12 PA09/GPIO 9/ADCIN5/AC1BN1/MDO[0] (io), 13 PA16/GPIO 16/ADCREF0/DACREF (io), 16 PA19/GPIO 19/ADCIN8/EIC - EXTINT[1]/MDO[0]/MDO[1] (io), 19 PA20/GPIO 20/ADCIN9/AC0AP0/AC0AP0/DAC0A (io), 20 PA21/GPIO 21/ADCIN10/AC0BN0/AC0BN0/DAC0B (io), 21 PA22/GPIO 22/ADCIN11/AC0AN0/PEVC - PAD_EVT [4]/MACB - SPEED/MDO[2] (io), 22 PA23/GPIO 23/ADCIN12/AC0BP0/PEVC - PAD_EVT [5]/MACB - WOL/MDO[3] (io)
part B pins: 31 PB30/GPIO 62/xin0 (io), 32 PB31/GPIO 63/xout0 (io), 62 PB00/GPIO 32/USART0 - CLK/CANIF - RXLINE[1]/EIC - EXTINT[8]/PEVC -PAD_EVT [10]/xin32 (io), 63 PB01/GPIO 33/CANIF - TXLINE[1]/PEVC -PAD_EVT [11]/xout32 (io)
part C pins: 33 PC02/GPIO 66/TWIMS0 - TWD/SPI0 - NPCS[3]/USART2 - RXD/TC1 - CLK1/MACB - MDC (io), 34 PC03/GPIO 67/TWIMS0 - TWCK/EIC - EXTINT[1]/USART2 - TXD/TC1 - B1/MACB - MDIO (io), 37 PC04/GPIO 68/TWIMS1 - TWD/EIC - EXTINT[3]/USART2 - TXD/TC0 - B1/MDO[4] (io), 38 PC05/GPIO 69/TWIMS1 - TWCK/EIC - EXTINT[4]/USART2 - RXD/TC0 - A2/MDO[5] (io), 39 PC15/GPIO 79/PWM - PWMH[1]/SPI0 - NPCS[0]/EBI -SDWE/USART0 - RXD/CANIF - RXLINE[1] (io), 40 PC16/GPIO 80/PWM - PWML[1]/SPI0 - NPCS[1]/EBI - CAS/USART0 - TXD/CANIF - TXLINE[1] (io), 41 PC17/GPIO 81/PWM - PWMH[0]/SPI0 - NPCS[2]/EBI - RAS/IISC -ISDO/USART3 - TXD (io), 42 PC18/GPIO 82/PWM - PWML[0]/EIC - EXTINT[5]/EBI -SDA10/IISC -ISDI/USART3 - RXD (io), 43 PC19/GPIO 83/PWM - PWML[2]/SCIF -GCLK[0]/EBI -DATA[0]/IISC -IMCK/USART3 - CTS (io), 44 PC20/GPIO 84/PWM - PWMH[2]/SCIF -GCLK[1]/EBI -DATA[1]/IISC -ISCK/USART3 - RTS (io), 45 PC21/GPIO 85/PWM - EXT_ FAULTS[0]/CANIF - RXLINE[0]/EBI -DATA[2]/IISC - IWS (io), 46 PC22/GPIO 86/PWM - EXT_ FAULTS[1]/CANIF - TXLINE[0]/EBI -DATA[3]/USART3 -CLK (io)
part D pins: 47 PD00/GPIO 96/SPI0 -MOSI/TC1 -CLK0/EBI -DATA[13]/QDEC0 -QEPI/USART0 -TXD (io), 48 PD01/GPIO 97/SPI0 -MISO/TC1 - A0/EBI -DATA[14]/TC0 - CLK1/USART0 -RXD (io), 49 PD02/GPIO 98/SPI0 -SCK/TC0 -CLK2/EBI -DATA[15]/QDEC0 -QEPA (io), 50 PD03/GPIO 99/SPI0 -NPCS[0]/TC0 - B2/EBI -ADDR[0]/QDEC0 -QEPB (io), 53 PD11/GPIO 107/USART1 - TXD/USBC - ID/EBI -ADDR[8]/PEVC -PAD_EVT [6]/MACB - TXD[0] (io), 54 PD12/GPIO 108/USART1 - RXD/USBC -VBOF/EBI -ADDR[9]/PEVC -PAD_EVT [7]/MACB - TXD[1] (io), 55 PD13/GPIO 109/USART1 - CTS/USART1 - CLK/EBI -SDCK/PEVC -PAD_EVT [8]/MACB - RXD[0]/MCKO (io), 56 PD14/GPIO 110/USART1 - RTS/EIC - EXTINT[7]/EBI -ADDR[10]/PEVC -PAD_EVT [9]/MACB - RXD[1]/MSEO[0] (io), 57 PD21/GPIO 117/USART3 - TXD/EIC - EXTINT[0]/EBI -ADDR[17]/QDEC1 -QEPI (io), 58 PD27/GPIO 123/USART0 - TXD/CANIF - RXLINE[0]/EBI -NCS[1]/TC0 - A0/MACB - RX_ER (io), 59 PD28/GPIO 124/USART0 - RXD/CANIF - TXLINE[0]/EBI -NCS[2]/TC0 - B0/MACB - RX_DV (io), 60 PD29/GPIO 125/USART0 - CTS/EIC - EXTINT[6]/USART0 - CLK/TC0 - CLK0/MACB - TX_CLK/EVTO_N (io), 61 PD30/GPIO 126/USART0 - RTS/EIC - EXTINT[3]/EBI -NWAIT/TC0 - A1/MACB - TX_EN/MSEO[1] (io)
part E pins: 14 ADCVREFP (in), 15 ADCVREFN (in), 23 VBUS (in), 24 DM (io), 25 DP (io), 64 RESET_N/DATA (io)
part F pins: 5 VDDIO1 (power), 6 GNDIO1 (power), 17 GNDANA (power), 18 VDDANA (power), 26 GNDPLL (power), 27 VDDIN_5 (power), 28 VDDIN_33 (power), 29 VDDCORE (power), 30 GNDCORE (power), 35 VDDIO2 (power), 36 GNDIO2 (power), 51 VDDIO3 (power), 52 GNDIO3 (power)

## AT32UC3C2512C-Z2UR
designator U?
32-bit AVR UC3 C Series Microcontroller, 512KB Flash, 68KB SRAM, 45 GPIO pins, Industrial Grade, 64- Pin QFN, Reel; DatasheetVersion: revC, Aug-2011; PackageVersion: 2011; PackageReference: Z64-2; PackageDescription: 64-Pin Quad Flat No-Lead, 9 x 9 mm Body, 0.5 mm Pitch, 6 x 6 mm Exposed Pad; Code_JEDEC: MO-220VMMD-3; ComponentLink1Description: Manufacturer URL; ComponentLink1URL: http://www.atmel.com/; ComponentLink2Description: AT32UC3C Datasheet; ComponentLink2URL: http://www.atmel.com/dyn/resources/prod_documents/doc32117.pdf; ComponentLink3Description: AT32UC3C Summary; ComponentLink3URL: http://www.atmel.com/dyn/resources/prod_documents/32117s.pdf
footprint Z64-2_N (QFN, 64-Leads, Body 9x9mm, Pitch 0.5mm, Thermal Pad 6.1x6.1mm, IPC Medium Density)
footprint Z64-2_L (QFN, 64-Leads, Body 9x9mm, Pitch 0.5mm, Thermal Pad 6.1x6.1mm, IPC High Density)
footprint Z64-2_M (QFN, 64-Leads, Body 9x9mm, Pitch 0.5mm, Thermal Pad 6.1x6.1mm, IPC Low Density)
part A pins: 1 PA00/GPIO 0/CANIF - TXLINE[1]/TCK (io), 2 PA01/GPIO 1/CANIF - RXLINE[1]/PEVC - PAD_EVT [0]/TDI (io), 3 PA02/GPIO 2/SCIF - GCLK[0]/PEVC - PAD_EVT [1]/TDO/DATAOUT (io), 4 PA03/GPIO 3/SCIF - GCLK[1]/EIC - EXTINT[1]/TMS (io), 7 PA04/GPIO 4/ADCIN0/USBC - ID/ACIFA0 - ACAOUT (io), 8 PA05/GPIO 5/ADCIN1/USBC -VBOF/ACIFA0 - ACBOUT (io), 9 PA06/GPIO 6/ADCIN2/AC1AP1/PEVC - PAD_EVT [2] (io), 10 PA07/GPIO 7/ADCIN3/AC1AN1/PEVC - PAD_EVT [3] (io), 11 PA08/GPIO 8/ADCIN4/AC1BP1/EIC - EXTINT[2]/EVTI_N (io), 12 PA09/GPIO 9/ADCIN5/AC1BN1/MDO[0] (io), 13 PA16/GPIO 16/ADCREF0/DACREF (io), 16 PA19/GPIO 19/ADCIN8/EIC - EXTINT[1]/MDO[0]/MDO[1] (io), 19 PA20/GPIO 20/ADCIN9/AC0AP0/AC0AP0/DAC0A (io), 20 PA21/GPIO 21/ADCIN10/AC0BN0/AC0BN0/DAC0B (io), 21 PA22/GPIO 22/ADCIN11/AC0AN0/PEVC - PAD_EVT [4]/MACB - SPEED/MDO[2] (io), 22 PA23/GPIO 23/ADCIN12/AC0BP0/PEVC - PAD_EVT [5]/MACB - WOL/MDO[3] (io)
part B pins: 31 PB30/GPIO 62/xin0 (io), 32 PB31/GPIO 63/xout0 (io), 62 PB00/GPIO 32/USART0 - CLK/CANIF - RXLINE[1]/EIC - EXTINT[8]/PEVC -PAD_EVT [10]/xin32 (io), 63 PB01/GPIO 33/CANIF - TXLINE[1]/PEVC -PAD_EVT [11]/xout32 (io)
part C pins: 33 PC02/GPIO 66/TWIMS0 - TWD/SPI0 - NPCS[3]/USART2 - RXD/TC1 - CLK1/MACB - MDC (io), 34 PC03/GPIO 67/TWIMS0 - TWCK/EIC - EXTINT[1]/USART2 - TXD/TC1 - B1/MACB - MDIO (io), 37 PC04/GPIO 68/TWIMS1 - TWD/EIC - EXTINT[3]/USART2 - TXD/TC0 - B1/MDO[4] (io), 38 PC05/GPIO 69/TWIMS1 - TWCK/EIC - EXTINT[4]/USART2 - RXD/TC0 - A2/MDO[5] (io), 39 PC15/GPIO 79/PWM - PWMH[1]/SPI0 - NPCS[0]/EBI -SDWE/USART0 - RXD/CANIF - RXLINE[1] (io), 40 PC16/GPIO 80/PWM - PWML[1]/SPI0 - NPCS[1]/EBI - CAS/USART0 - TXD/CANIF - TXLINE[1] (io), 41 PC17/GPIO 81/PWM - PWMH[0]/SPI0 - NPCS[2]/EBI - RAS/IISC -ISDO/USART3 - TXD (io), 42 PC18/GPIO 82/PWM - PWML[0]/EIC - EXTINT[5]/EBI -SDA10/IISC -ISDI/USART3 - RXD (io), 43 PC19/GPIO 83/PWM - PWML[2]/SCIF -GCLK[0]/EBI -DATA[0]/IISC -IMCK/USART3 - CTS (io), 44 PC20/GPIO 84/PWM - PWMH[2]/SCIF -GCLK[1]/EBI -DATA[1]/IISC -ISCK/USART3 - RTS (io), 45 PC21/GPIO 85/PWM - EXT_ FAULTS[0]/CANIF - RXLINE[0]/EBI -DATA[2]/IISC - IWS (io), 46 PC22/GPIO 86/PWM - EXT_ FAULTS[1]/CANIF - TXLINE[0]/EBI -DATA[3]/USART3 -CLK (io)
part D pins: 47 PD00/GPIO 96/SPI0 -MOSI/TC1 -CLK0/EBI -DATA[13]/QDEC0 -QEPI/USART0 -TXD (io), 48 PD01/GPIO 97/SPI0 -MISO/TC1 - A0/EBI -DATA[14]/TC0 - CLK1/USART0 -RXD (io), 49 PD02/GPIO 98/SPI0 -SCK/TC0 -CLK2/EBI -DATA[15]/QDEC0 -QEPA (io), 50 PD03/GPIO 99/SPI0 -NPCS[0]/TC0 - B2/EBI -ADDR[0]/QDEC0 -QEPB (io), 53 PD11/GPIO 107/USART1 - TXD/USBC - ID/EBI -ADDR[8]/PEVC -PAD_EVT [6]/MACB - TXD[0] (io), 54 PD12/GPIO 108/USART1 - RXD/USBC -VBOF/EBI -ADDR[9]/PEVC -PAD_EVT [7]/MACB - TXD[1] (io), 55 PD13/GPIO 109/USART1 - CTS/USART1 - CLK/EBI -SDCK/PEVC -PAD_EVT [8]/MACB - RXD[0]/MCKO (io), 56 PD14/GPIO 110/USART1 - RTS/EIC - EXTINT[7]/EBI -ADDR[10]/PEVC -PAD_EVT [9]/MACB - RXD[1]/MSEO[0] (io), 57 PD21/GPIO 117/USART3 - TXD/EIC - EXTINT[0]/EBI -ADDR[17]/QDEC1 -QEPI (io), 58 PD27/GPIO 123/USART0 - TXD/CANIF - RXLINE[0]/EBI -NCS[1]/TC0 - A0/MACB - RX_ER (io), 59 PD28/GPIO 124/USART0 - RXD/CANIF - TXLINE[0]/EBI -NCS[2]/TC0 - B0/MACB - RX_DV (io), 60 PD29/GPIO 125/USART0 - CTS/EIC - EXTINT[6]/USART0 - CLK/TC0 - CLK0/MACB - TX_CLK/EVTO_N (io), 61 PD30/GPIO 126/USART0 - RTS/EIC - EXTINT[3]/EBI -NWAIT/TC0 - A1/MACB - TX_EN/MSEO[1] (io)
part E pins: 14 ADCVREFP (in), 15 ADCVREFN (in), 23 VBUS (in), 24 DM (io), 25 DP (io), 64 RESET_N/DATA (io)
part F pins: 5 VDDIO1 (power), 6 GNDIO1 (power), 17 GNDANA (power), 18 VDDANA (power), 26 GNDPLL (power), 27 VDDIN_5 (power), 28 VDDIN_33 (power), 29 VDDCORE (power), 30 GNDCORE (power), 35 VDDIO2 (power), 36 GNDIO2 (power), 51 VDDIO3 (power), 52 GNDIO3 (power), 65 DAP (power)

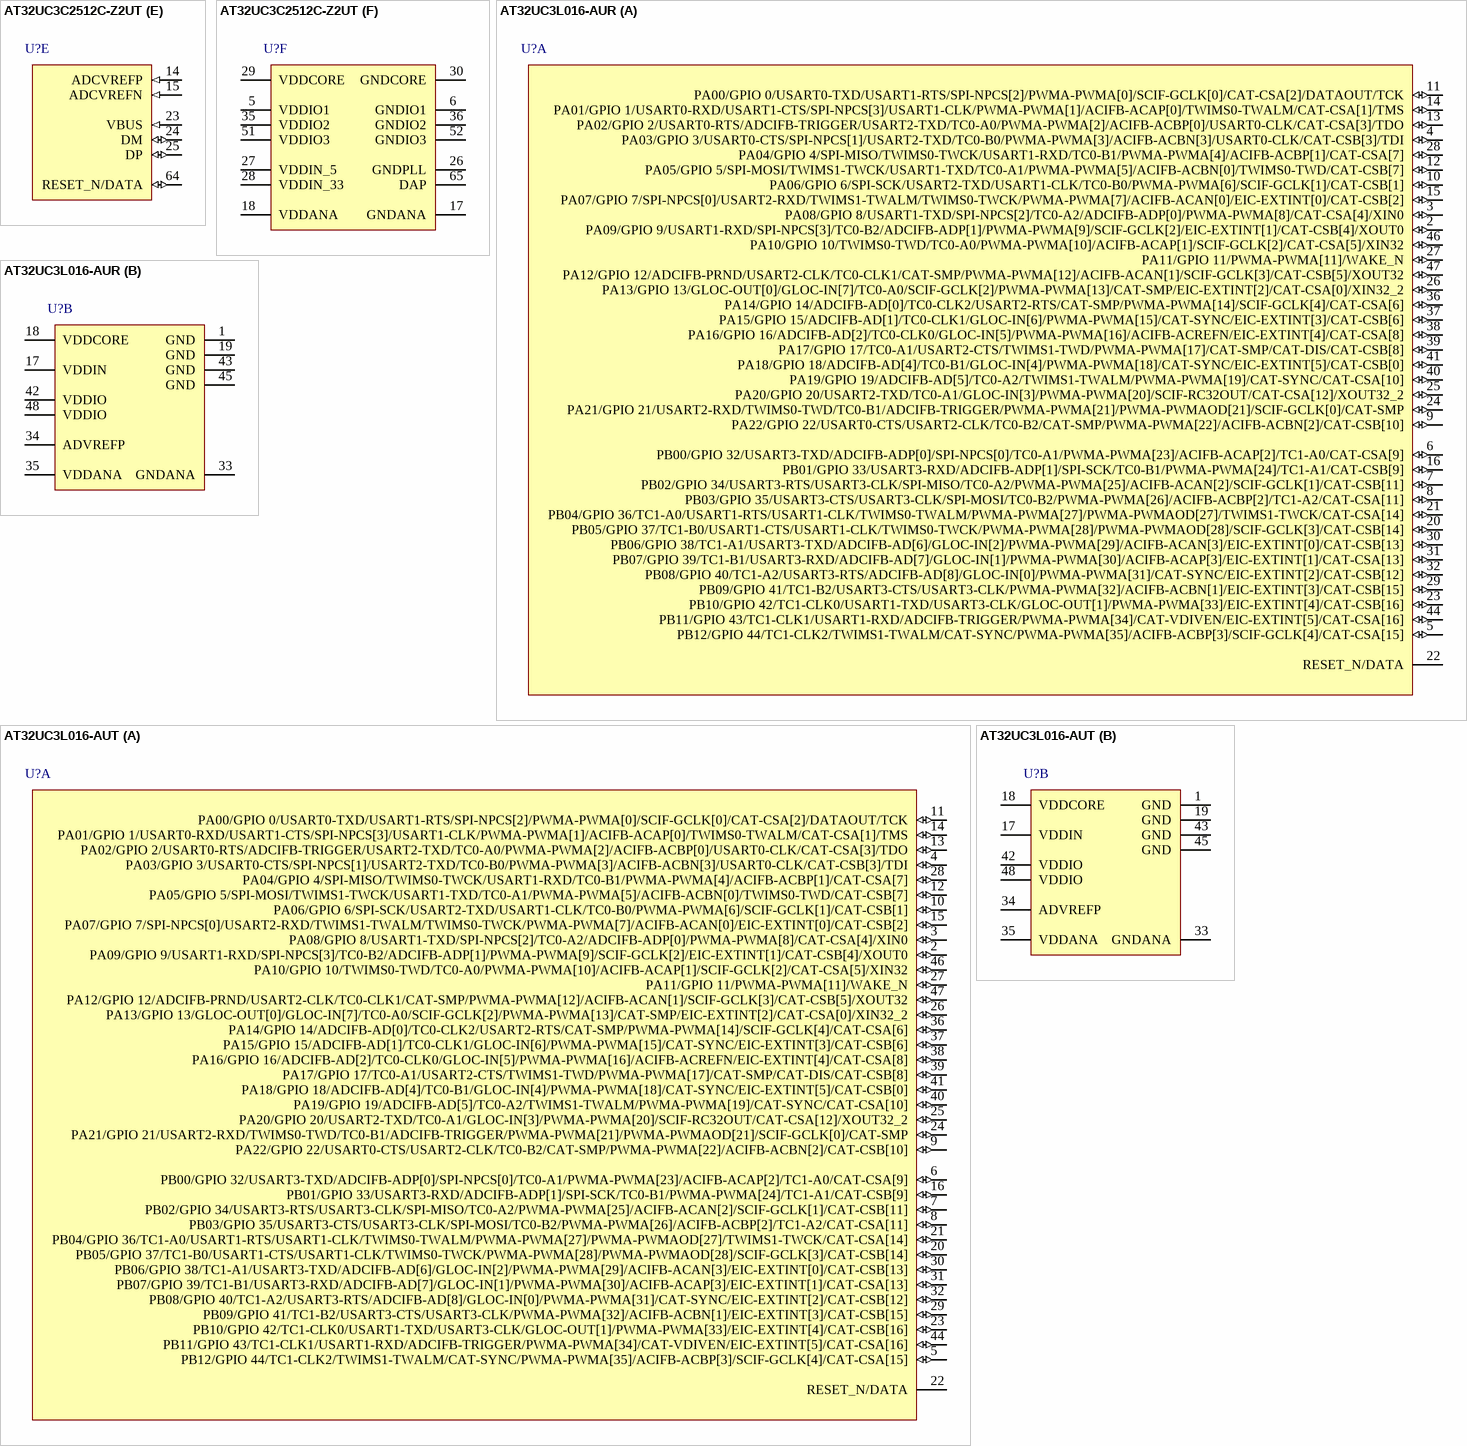
[diagram p93: symbols AT32UC3C2512C-Z2UT to AT32UC3L016-AUT]

## AT32UC3C2512C-Z2UT
designator U?
32-bit AVR UC3 C Series Microcontroller, 512KB Flash, 68KB SRAM, 45 GPIO pins, Industrial Grade, 64- Pin QFN, Tray; DatasheetVersion: revC, Aug-2011; PackageVersion: 2011; PackageReference: Z64-2; PackageDescription: 64-Pin Quad Flat No-Lead, 9 x 9 mm Body, 0.5 mm Pitch, 6 x 6 mm Exposed Pad; Code_JEDEC: MO-220VMMD-3; ComponentLink1Description: Manufacturer URL; ComponentLink1URL: http://www.atmel.com/; ComponentLink2Description: AT32UC3C Datasheet; ComponentLink2URL: http://www.atmel.com/dyn/resources/prod_documents/doc32117.pdf; ComponentLink3Description: AT32UC3C Summary; ComponentLink3URL: http://www.atmel.com/dyn/resources/prod_documents/32117s.pdf
footprint Z64-2_N (QFN, 64-Leads, Body 9x9mm, Pitch 0.5mm, Thermal Pad 6.1x6.1mm, IPC Medium Density)
footprint Z64-2_L (QFN, 64-Leads, Body 9x9mm, Pitch 0.5mm, Thermal Pad 6.1x6.1mm, IPC High Density)
footprint Z64-2_M (QFN, 64-Leads, Body 9x9mm, Pitch 0.5mm, Thermal Pad 6.1x6.1mm, IPC Low Density)
part A pins: 1 PA00/GPIO 0/CANIF - TXLINE[1]/TCK (io), 2 PA01/GPIO 1/CANIF - RXLINE[1]/PEVC - PAD_EVT [0]/TDI (io), 3 PA02/GPIO 2/SCIF - GCLK[0]/PEVC - PAD_EVT [1]/TDO/DATAOUT (io), 4 PA03/GPIO 3/SCIF - GCLK[1]/EIC - EXTINT[1]/TMS (io), 7 PA04/GPIO 4/ADCIN0/USBC - ID/ACIFA0 - ACAOUT (io), 8 PA05/GPIO 5/ADCIN1/USBC -VBOF/ACIFA0 - ACBOUT (io), 9 PA06/GPIO 6/ADCIN2/AC1AP1/PEVC - PAD_EVT [2] (io), 10 PA07/GPIO 7/ADCIN3/AC1AN1/PEVC - PAD_EVT [3] (io), 11 PA08/GPIO 8/ADCIN4/AC1BP1/EIC - EXTINT[2]/EVTI_N (io), 12 PA09/GPIO 9/ADCIN5/AC1BN1/MDO[0] (io), 13 PA16/GPIO 16/ADCREF0/DACREF (io), 16 PA19/GPIO 19/ADCIN8/EIC - EXTINT[1]/MDO[0]/MDO[1] (io), 19 PA20/GPIO 20/ADCIN9/AC0AP0/AC0AP0/DAC0A (io), 20 PA21/GPIO 21/ADCIN10/AC0BN0/AC0BN0/DAC0B (io), 21 PA22/GPIO 22/ADCIN11/AC0AN0/PEVC - PAD_EVT [4]/MACB - SPEED/MDO[2] (io), 22 PA23/GPIO 23/ADCIN12/AC0BP0/PEVC - PAD_EVT [5]/MACB - WOL/MDO[3] (io)
part B pins: 31 PB30/GPIO 62/xin0 (io), 32 PB31/GPIO 63/xout0 (io), 62 PB00/GPIO 32/USART0 - CLK/CANIF - RXLINE[1]/EIC - EXTINT[8]/PEVC -PAD_EVT [10]/xin32 (io), 63 PB01/GPIO 33/CANIF - TXLINE[1]/PEVC -PAD_EVT [11]/xout32 (io)
part C pins: 33 PC02/GPIO 66/TWIMS0 - TWD/SPI0 - NPCS[3]/USART2 - RXD/TC1 - CLK1/MACB - MDC (io), 34 PC03/GPIO 67/TWIMS0 - TWCK/EIC - EXTINT[1]/USART2 - TXD/TC1 - B1/MACB - MDIO (io), 37 PC04/GPIO 68/TWIMS1 - TWD/EIC - EXTINT[3]/USART2 - TXD/TC0 - B1/MDO[4] (io), 38 PC05/GPIO 69/TWIMS1 - TWCK/EIC - EXTINT[4]/USART2 - RXD/TC0 - A2/MDO[5] (io), 39 PC15/GPIO 79/PWM - PWMH[1]/SPI0 - NPCS[0]/EBI -SDWE/USART0 - RXD/CANIF - RXLINE[1] (io), 40 PC16/GPIO 80/PWM - PWML[1]/SPI0 - NPCS[1]/EBI - CAS/USART0 - TXD/CANIF - TXLINE[1] (io), 41 PC17/GPIO 81/PWM - PWMH[0]/SPI0 - NPCS[2]/EBI - RAS/IISC -ISDO/USART3 - TXD (io), 42 PC18/GPIO 82/PWM - PWML[0]/EIC - EXTINT[5]/EBI -SDA10/IISC -ISDI/USART3 - RXD (io), 43 PC19/GPIO 83/PWM - PWML[2]/SCIF -GCLK[0]/EBI -DATA[0]/IISC -IMCK/USART3 - CTS (io), 44 PC20/GPIO 84/PWM - PWMH[2]/SCIF -GCLK[1]/EBI -DATA[1]/IISC -ISCK/USART3 - RTS (io), 45 PC21/GPIO 85/PWM - EXT_ FAULTS[0]/CANIF - RXLINE[0]/EBI -DATA[2]/IISC - IWS (io), 46 PC22/GPIO 86/PWM - EXT_ FAULTS[1]/CANIF - TXLINE[0]/EBI -DATA[3]/USART3 -CLK (io)
part D pins: 47 PD00/GPIO 96/SPI0 -MOSI/TC1 -CLK0/EBI -DATA[13]/QDEC0 -QEPI/USART0 -TXD (io), 48 PD01/GPIO 97/SPI0 -MISO/TC1 - A0/EBI -DATA[14]/TC0 - CLK1/USART0 -RXD (io), 49 PD02/GPIO 98/SPI0 -SCK/TC0 -CLK2/EBI -DATA[15]/QDEC0 -QEPA (io), 50 PD03/GPIO 99/SPI0 -NPCS[0]/TC0 - B2/EBI -ADDR[0]/QDEC0 -QEPB (io), 53 PD11/GPIO 107/USART1 - TXD/USBC - ID/EBI -ADDR[8]/PEVC -PAD_EVT [6]/MACB - TXD[0] (io), 54 PD12/GPIO 108/USART1 - RXD/USBC -VBOF/EBI -ADDR[9]/PEVC -PAD_EVT [7]/MACB - TXD[1] (io), 55 PD13/GPIO 109/USART1 - CTS/USART1 - CLK/EBI -SDCK/PEVC -PAD_EVT [8]/MACB - RXD[0]/MCKO (io), 56 PD14/GPIO 110/USART1 - RTS/EIC - EXTINT[7]/EBI -ADDR[10]/PEVC -PAD_EVT [9]/MACB - RXD[1]/MSEO[0] (io), 57 PD21/GPIO 117/USART3 - TXD/EIC - EXTINT[0]/EBI -ADDR[17]/QDEC1 -QEPI (io), 58 PD27/GPIO 123/USART0 - TXD/CANIF - RXLINE[0]/EBI -NCS[1]/TC0 - A0/MACB - RX_ER (io), 59 PD28/GPIO 124/USART0 - RXD/CANIF - TXLINE[0]/EBI -NCS[2]/TC0 - B0/MACB - RX_DV (io), 60 PD29/GPIO 125/USART0 - CTS/EIC - EXTINT[6]/USART0 - CLK/TC0 - CLK0/MACB - TX_CLK/EVTO_N (io), 61 PD30/GPIO 126/USART0 - RTS/EIC - EXTINT[3]/EBI -NWAIT/TC0 - A1/MACB - TX_EN/MSEO[1] (io)
part E pins: 14 ADCVREFP (in), 15 ADCVREFN (in), 23 VBUS (in), 24 DM (io), 25 DP (io), 64 RESET_N/DATA (io)
part F pins: 5 VDDIO1 (power), 6 GNDIO1 (power), 17 GNDANA (power), 18 VDDANA (power), 26 GNDPLL (power), 27 VDDIN_5 (power), 28 VDDIN_33 (power), 29 VDDCORE (power), 30 GNDCORE (power), 35 VDDIO2 (power), 36 GNDIO2 (power), 51 VDDIO3 (power), 52 GNDIO3 (power), 65 DAP (power)

## AT32UC3L016-AUR
designator U?
32-bit AVR UC3 Microcontroller, 16KB Flash, 8KB SRAM, 36 GPIO pins, Industrial Grade, 48-Pin TQFP, Reel; DatasheetVersion: revG, Jul-2011; PackageVersion: 2011; PackageReference: TQFP48; PackageDescription: 48-Pin Thin Quad Flat Pack, 7 x 7 x 1 mm Body, 0.5 mm Pitch; Code_JEDEC: MS-026; ComponentLink1Description: Manufacturer URL; ComponentLink1URL: http://www.atmel.com/; ComponentLink2Description: AT32UC3L Datasheet; ComponentLink2URL: http://www.atmel.com/dyn/resources/prod_documents/doc32099.pdf; ComponentLink3Description: AT32UC3L Summary; ComponentLink3URL: http://www.atmel.com/dyn/resources/prod_documents/32099S.pdf
footprint TQFP48_N (Thin QFP, 48-Leads, Body 7x7mm, Pitch 0.5mm, IPC Medium Density)
footprint TQFP48_L (Thin QFP, 48-Leads, Body 7x7mm, Pitch 0.5mm, IPC High Density)
footprint TQFP48_M (Thin QFP, 48-Leads, Body 7x7mm, Pitch 0.5mm, IPC Low Density)
part A pins: 2 PA09/GPIO 9/USART1-RXD/SPI-NPCS[3]/TC0-B2/ADCIFB-ADP[1]/PWMA-PWMA[9]/SCIF-GCLK[2]/EIC-EXTINT[1]/CAT-CSB[4]/XOUT0 (io), 3 PA08/GPIO 8/USART1-TXD/SPI-NPCS[2]/TC0-A2/ADCIFB-ADP[0]/PWMA-PWMA[8]/CAT-CSA[4]/XIN0 (io), 4 PA03/GPIO 3/USART0-CTS/SPI-NPCS[1]/USART2-TXD/TC0-B0/PWMA-PWMA[3]/ACIFB-ACBN[3]/USART0-CLK/CAT-CSB[3]/TDI (io), 5 PB12/GPIO 44/TC1-CLK2/TWIMS1-TWALM/CAT-SYNC/PWMA-PWMA[35]/ACIFB-ACBP[3]/SCIF-GCLK[4]/CAT-CSA[15] (io), 6 PB00/GPIO 32/USART3-TXD/ADCIFB-ADP[0]/SPI-NPCS[0]/TC0-A1/PWMA-PWMA[23]/ACIFB-ACAP[2]/TC1-A0/CAT-CSA[9] (io), 7 PB02/GPIO 34/USART3-RTS/USART3-CLK/SPI-MISO/TC0-A2/PWMA-PWMA[25]/ACIFB-ACAN[2]/SCIF-GCLK[1]/CAT-CSB[11] (io), 8 PB03/GPIO 35/USART3-CTS/USART3-CLK/SPI-MOSI/TC0-B2/PWMA-PWMA[26]/ACIFB-ACBP[2]/TC1-A2/CAT-CSA[11] (io), 9 PA22/GPIO 22/USART0-CTS/USART2-CLK/TC0-B2/CAT-SMP/PWMA-PWMA[22]/ACIFB-ACBN[2]/CAT-CSB[10] (io), 10 PA06/GPIO 6/SPI-SCK/USART2-TXD/USART1-CLK/TC0-B0/PWMA-PWMA[6]/SCIF-GCLK[1]/CAT-CSB[1] (io), 11 PA00/GPIO 0/USART0-TXD/USART1-RTS/SPI-NPCS[2]/PWMA-PWMA[0]/SCIF-GCLK[0]/CAT-CSA[2]/DATAOUT/TCK (io), 12 PA05/GPIO 5/SPI-MOSI/TWIMS1-TWCK/USART1-TXD/TC0-A1/PWMA-PWMA[5]/ACIFB-ACBN[0]/TWIMS0-TWD/CAT-CSB[7] (io), 13 PA02/GPIO 2/USART0-RTS/ADCIFB-TRIGGER/USART2-TXD/TC0-A0/PWMA-PWMA[2]/ACIFB-ACBP[0]/USART0-CLK/CAT-CSA[3]/TDO (io), 14 PA01/GPIO 1/USART0-RXD/USART1-CTS/SPI-NPCS[3]/USART1-CLK/PWMA-PWMA[1]/ACIFB-ACAP[0]/TWIMS0-TWALM/CAT-CSA[1]/TMS (io), 15 PA07/GPIO 7/SPI-NPCS[0]/USART2-RXD/TWIMS1-TWALM/TWIMS0-TWCK/PWMA-PWMA[7]/ACIFB-ACAN[0]/EIC-EXTINT[0]/CAT-CSB[2] (io), 16 PB01/GPIO 33/USART3-RXD/ADCIFB-ADP[1]/SPI-SCK/TC0-B1/PWMA-PWMA[24]/TC1-A1/CAT-CSB[9] (io), 20 PB05/GPIO 37/TC1-B0/USART1-CTS/USART1-CLK/TWIMS0-TWCK/PWMA-PWMA[28]/PWMA-PWMAOD[28]/SCIF-GCLK[3]/CAT-CSB[14] (io), 21 PB04/GPIO 36/TC1-A0/USART1-RTS/USART1-CLK/TWIMS0-TWALM/PWMA-PWMA[27]/PWMA-PWMAOD[27]/TWIMS1-TWCK/CAT-CSA[14] (io), 22 RESET_N/DATA (power), 23 PB10/GPIO 42/TC1-CLK0/USART1-TXD/USART3-CLK/GLOC-OUT[1]/PWMA-PWMA[33]/EIC-EXTINT[4]/CAT-CSB[16] (io), 24 PA21/GPIO 21/USART2-RXD/TWIMS0-TWD/TC0-B1/ADCIFB-TRIGGER/PWMA-PWMA[21]/PWMA-PWMAOD[21]/SCIF-GCLK[0]/CAT-SMP (io), 25 PA20/GPIO 20/USART2-TXD/TC0-A1/GLOC-IN[3]/PWMA-PWMA[20]/SCIF-RC32OUT/CAT-CSA[12]/XOUT32_2 (io), 26 PA13/GPIO 13/GLOC-OUT[0]/GLOC-IN[7]/TC0-A0/SCIF-GCLK[2]/PWMA-PWMA[13]/CAT-SMP/EIC-EXTINT[2]/CAT-CSA[0]/XIN32_2 (io), 27 PA11/GPIO 11/PWMA-PWMA[11]/WAKE_N (io), 28 PA04/GPIO 4/SPI-MISO/TWIMS0-TWCK/USART1-RXD/TC0-B1/PWMA-PWMA[4]/ACIFB-ACBP[1]/CAT-CSA[7] (io), 29 PB09/GPIO 41/TC1-B2/USART3-CTS/USART3-CLK/PWMA-PWMA[32]/ACIFB-ACBN[1]/EIC-EXTINT[3]/CAT-CSB[15] (io), 30 PB06/GPIO 38/TC1-A1/USART3-TXD/ADCIFB-AD[6]/GLOC-IN[2]/PWMA-PWMA[29]/ACIFB-ACAN[3]/EIC-EXTINT[0]/CAT-CSB[13] (io), 31 PB07/GPIO 39/TC1-B1/USART3-RXD/ADCIFB-AD[7]/GLOC-IN[1]/PWMA-PWMA[30]/ACIFB-ACAP[3]/EIC-EXTINT[1]/CAT-CSA[13] (io), 32 PB08/GPIO 40/TC1-A2/USART3-RTS/ADCIFB-AD[8]/GLOC-IN[0]/PWMA-PWMA[31]/CAT-SYNC/EIC-EXTINT[2]/CAT-CSB[12] (io), 36 PA14/GPIO 14/ADCIFB-AD[0]/TC0-CLK2/USART2-RTS/CAT-SMP/PWMA-PWMA[14]/SCIF-GCLK[4]/CAT-CSA[6] (io), 37 PA15/GPIO 15/ADCIFB-AD[1]/TC0-CLK1/GLOC-IN[6]/PWMA-PWMA[15]/CAT-SYNC/EIC-EXTINT[3]/CAT-CSB[6] (io), 38 PA16/GPIO 16/ADCIFB-AD[2]/TC0-CLK0/GLOC-IN[5]/PWMA-PWMA[16]/ACIFB-ACREFN/EIC-EXTINT[4]/CAT-CSA[8] (io), 39 PA17/GPIO 17/TC0-A1/USART2-CTS/TWIMS1-TWD/PWMA-PWMA[17]/CAT-SMP/CAT-DIS/CAT-CSB[8] (io), 40 PA19/GPIO 19/ADCIFB-AD[5]/TC0-A2/TWIMS1-TWALM/PWMA-PWMA[19]/CAT-SYNC/CAT-CSA[10] (io), 41 PA18/GPIO 18/ADCIFB-AD[4]/TC0-B1/GLOC-IN[4]/PWMA-PWMA[18]/CAT-SYNC/EIC-EXTINT[5]/CAT-CSB[0] (io), 44 PB11/GPIO 43/TC1-CLK1/USART1-RXD/ADCIFB-TRIGGER/PWMA-PWMA[34]/CAT-VDIVEN/EIC-EXTINT[5]/CAT-CSA[16] (io), 46 PA10/GPIO 10/TWIMS0-TWD/TC0-A0/PWMA-PWMA[10]/ACIFB-ACAP[1]/SCIF-GCLK[2]/CAT-CSA[5]/XIN32 (io), 47 PA12/GPIO 12/ADCIFB-PRND/USART2-CLK/TC0-CLK1/CAT-SMP/PWMA-PWMA[12]/ACIFB-ACAN[1]/SCIF-GCLK[3]/CAT-CSB[5]/XOUT32 (io)
part B pins: 1 GND (power), 17 VDDIN (power), 18 VDDCORE (power), 19 GND (power), 33 GNDANA (power), 34 ADVREFP (power), 35 VDDANA (power), 42 VDDIO (power), 43 GND (power), 45 GND (power), 48 VDDIO (power)

## AT32UC3L016-AUT
designator U?
32-bit AVR UC3 Microcontroller, 16KB Flash, 8KB SRAM, 36 GPIO pins, Industrial Grade, 48-Pin TQFP, Tray; DatasheetVersion: revG, Jul-2011; PackageVersion: 2011; PackageReference: TQFP48; PackageDescription: 48-Pin Thin Quad Flat Pack, 7 x 7 x 1 mm Body, 0.5 mm Pitch; Code_JEDEC: MS-026; ComponentLink1Description: Manufacturer URL; ComponentLink1URL: http://www.atmel.com/; ComponentLink2Description: AT32UC3L Datasheet; ComponentLink2URL: http://www.atmel.com/dyn/resources/prod_documents/doc32099.pdf; ComponentLink3Description: AT32UC3L Summary; ComponentLink3URL: http://www.atmel.com/dyn/resources/prod_documents/32099S.pdf
footprint TQFP48_N (Thin QFP, 48-Leads, Body 7x7mm, Pitch 0.5mm, IPC Medium Density)
footprint TQFP48_L (Thin QFP, 48-Leads, Body 7x7mm, Pitch 0.5mm, IPC High Density)
footprint TQFP48_M (Thin QFP, 48-Leads, Body 7x7mm, Pitch 0.5mm, IPC Low Density)
part A pins: 2 PA09/GPIO 9/USART1-RXD/SPI-NPCS[3]/TC0-B2/ADCIFB-ADP[1]/PWMA-PWMA[9]/SCIF-GCLK[2]/EIC-EXTINT[1]/CAT-CSB[4]/XOUT0 (io), 3 PA08/GPIO 8/USART1-TXD/SPI-NPCS[2]/TC0-A2/ADCIFB-ADP[0]/PWMA-PWMA[8]/CAT-CSA[4]/XIN0 (io), 4 PA03/GPIO 3/USART0-CTS/SPI-NPCS[1]/USART2-TXD/TC0-B0/PWMA-PWMA[3]/ACIFB-ACBN[3]/USART0-CLK/CAT-CSB[3]/TDI (io), 5 PB12/GPIO 44/TC1-CLK2/TWIMS1-TWALM/CAT-SYNC/PWMA-PWMA[35]/ACIFB-ACBP[3]/SCIF-GCLK[4]/CAT-CSA[15] (io), 6 PB00/GPIO 32/USART3-TXD/ADCIFB-ADP[0]/SPI-NPCS[0]/TC0-A1/PWMA-PWMA[23]/ACIFB-ACAP[2]/TC1-A0/CAT-CSA[9] (io), 7 PB02/GPIO 34/USART3-RTS/USART3-CLK/SPI-MISO/TC0-A2/PWMA-PWMA[25]/ACIFB-ACAN[2]/SCIF-GCLK[1]/CAT-CSB[11] (io), 8 PB03/GPIO 35/USART3-CTS/USART3-CLK/SPI-MOSI/TC0-B2/PWMA-PWMA[26]/ACIFB-ACBP[2]/TC1-A2/CAT-CSA[11] (io), 9 PA22/GPIO 22/USART0-CTS/USART2-CLK/TC0-B2/CAT-SMP/PWMA-PWMA[22]/ACIFB-ACBN[2]/CAT-CSB[10] (io), 10 PA06/GPIO 6/SPI-SCK/USART2-TXD/USART1-CLK/TC0-B0/PWMA-PWMA[6]/SCIF-GCLK[1]/CAT-CSB[1] (io), 11 PA00/GPIO 0/USART0-TXD/USART1-RTS/SPI-NPCS[2]/PWMA-PWMA[0]/SCIF-GCLK[0]/CAT-CSA[2]/DATAOUT/TCK (io), 12 PA05/GPIO 5/SPI-MOSI/TWIMS1-TWCK/USART1-TXD/TC0-A1/PWMA-PWMA[5]/ACIFB-ACBN[0]/TWIMS0-TWD/CAT-CSB[7] (io), 13 PA02/GPIO 2/USART0-RTS/ADCIFB-TRIGGER/USART2-TXD/TC0-A0/PWMA-PWMA[2]/ACIFB-ACBP[0]/USART0-CLK/CAT-CSA[3]/TDO (io), 14 PA01/GPIO 1/USART0-RXD/USART1-CTS/SPI-NPCS[3]/USART1-CLK/PWMA-PWMA[1]/ACIFB-ACAP[0]/TWIMS0-TWALM/CAT-CSA[1]/TMS (io), 15 PA07/GPIO 7/SPI-NPCS[0]/USART2-RXD/TWIMS1-TWALM/TWIMS0-TWCK/PWMA-PWMA[7]/ACIFB-ACAN[0]/EIC-EXTINT[0]/CAT-CSB[2] (io), 16 PB01/GPIO 33/USART3-RXD/ADCIFB-ADP[1]/SPI-SCK/TC0-B1/PWMA-PWMA[24]/TC1-A1/CAT-CSB[9] (io), 20 PB05/GPIO 37/TC1-B0/USART1-CTS/USART1-CLK/TWIMS0-TWCK/PWMA-PWMA[28]/PWMA-PWMAOD[28]/SCIF-GCLK[3]/CAT-CSB[14] (io), 21 PB04/GPIO 36/TC1-A0/USART1-RTS/USART1-CLK/TWIMS0-TWALM/PWMA-PWMA[27]/PWMA-PWMAOD[27]/TWIMS1-TWCK/CAT-CSA[14] (io), 22 RESET_N/DATA (power), 23 PB10/GPIO 42/TC1-CLK0/USART1-TXD/USART3-CLK/GLOC-OUT[1]/PWMA-PWMA[33]/EIC-EXTINT[4]/CAT-CSB[16] (io), 24 PA21/GPIO 21/USART2-RXD/TWIMS0-TWD/TC0-B1/ADCIFB-TRIGGER/PWMA-PWMA[21]/PWMA-PWMAOD[21]/SCIF-GCLK[0]/CAT-SMP (io), 25 PA20/GPIO 20/USART2-TXD/TC0-A1/GLOC-IN[3]/PWMA-PWMA[20]/SCIF-RC32OUT/CAT-CSA[12]/XOUT32_2 (io), 26 PA13/GPIO 13/GLOC-OUT[0]/GLOC-IN[7]/TC0-A0/SCIF-GCLK[2]/PWMA-PWMA[13]/CAT-SMP/EIC-EXTINT[2]/CAT-CSA[0]/XIN32_2 (io), 27 PA11/GPIO 11/PWMA-PWMA[11]/WAKE_N (io), 28 PA04/GPIO 4/SPI-MISO/TWIMS0-TWCK/USART1-RXD/TC0-B1/PWMA-PWMA[4]/ACIFB-ACBP[1]/CAT-CSA[7] (io), 29 PB09/GPIO 41/TC1-B2/USART3-CTS/USART3-CLK/PWMA-PWMA[32]/ACIFB-ACBN[1]/EIC-EXTINT[3]/CAT-CSB[15] (io), 30 PB06/GPIO 38/TC1-A1/USART3-TXD/ADCIFB-AD[6]/GLOC-IN[2]/PWMA-PWMA[29]/ACIFB-ACAN[3]/EIC-EXTINT[0]/CAT-CSB[13] (io), 31 PB07/GPIO 39/TC1-B1/USART3-RXD/ADCIFB-AD[7]/GLOC-IN[1]/PWMA-PWMA[30]/ACIFB-ACAP[3]/EIC-EXTINT[1]/CAT-CSA[13] (io), 32 PB08/GPIO 40/TC1-A2/USART3-RTS/ADCIFB-AD[8]/GLOC-IN[0]/PWMA-PWMA[31]/CAT-SYNC/EIC-EXTINT[2]/CAT-CSB[12] (io), 36 PA14/GPIO 14/ADCIFB-AD[0]/TC0-CLK2/USART2-RTS/CAT-SMP/PWMA-PWMA[14]/SCIF-GCLK[4]/CAT-CSA[6] (io), 37 PA15/GPIO 15/ADCIFB-AD[1]/TC0-CLK1/GLOC-IN[6]/PWMA-PWMA[15]/CAT-SYNC/EIC-EXTINT[3]/CAT-CSB[6] (io), 38 PA16/GPIO 16/ADCIFB-AD[2]/TC0-CLK0/GLOC-IN[5]/PWMA-PWMA[16]/ACIFB-ACREFN/EIC-EXTINT[4]/CAT-CSA[8] (io), 39 PA17/GPIO 17/TC0-A1/USART2-CTS/TWIMS1-TWD/PWMA-PWMA[17]/CAT-SMP/CAT-DIS/CAT-CSB[8] (io), 40 PA19/GPIO 19/ADCIFB-AD[5]/TC0-A2/TWIMS1-TWALM/PWMA-PWMA[19]/CAT-SYNC/CAT-CSA[10] (io), 41 PA18/GPIO 18/ADCIFB-AD[4]/TC0-B1/GLOC-IN[4]/PWMA-PWMA[18]/CAT-SYNC/EIC-EXTINT[5]/CAT-CSB[0] (io), 44 PB11/GPIO 43/TC1-CLK1/USART1-RXD/ADCIFB-TRIGGER/PWMA-PWMA[34]/CAT-VDIVEN/EIC-EXTINT[5]/CAT-CSA[16] (io), 46 PA10/GPIO 10/TWIMS0-TWD/TC0-A0/PWMA-PWMA[10]/ACIFB-ACAP[1]/SCIF-GCLK[2]/CAT-CSA[5]/XIN32 (io), 47 PA12/GPIO 12/ADCIFB-PRND/USART2-CLK/TC0-CLK1/CAT-SMP/PWMA-PWMA[12]/ACIFB-ACAN[1]/SCIF-GCLK[3]/CAT-CSB[5]/XOUT32 (io)
part B pins: 1 GND (power), 17 VDDIN (power), 18 VDDCORE (power), 19 GND (power), 33 GNDANA (power), 34 ADVREFP (power), 35 VDDANA (power), 42 VDDIO (power), 43 GND (power), 45 GND (power), 48 VDDIO (power)

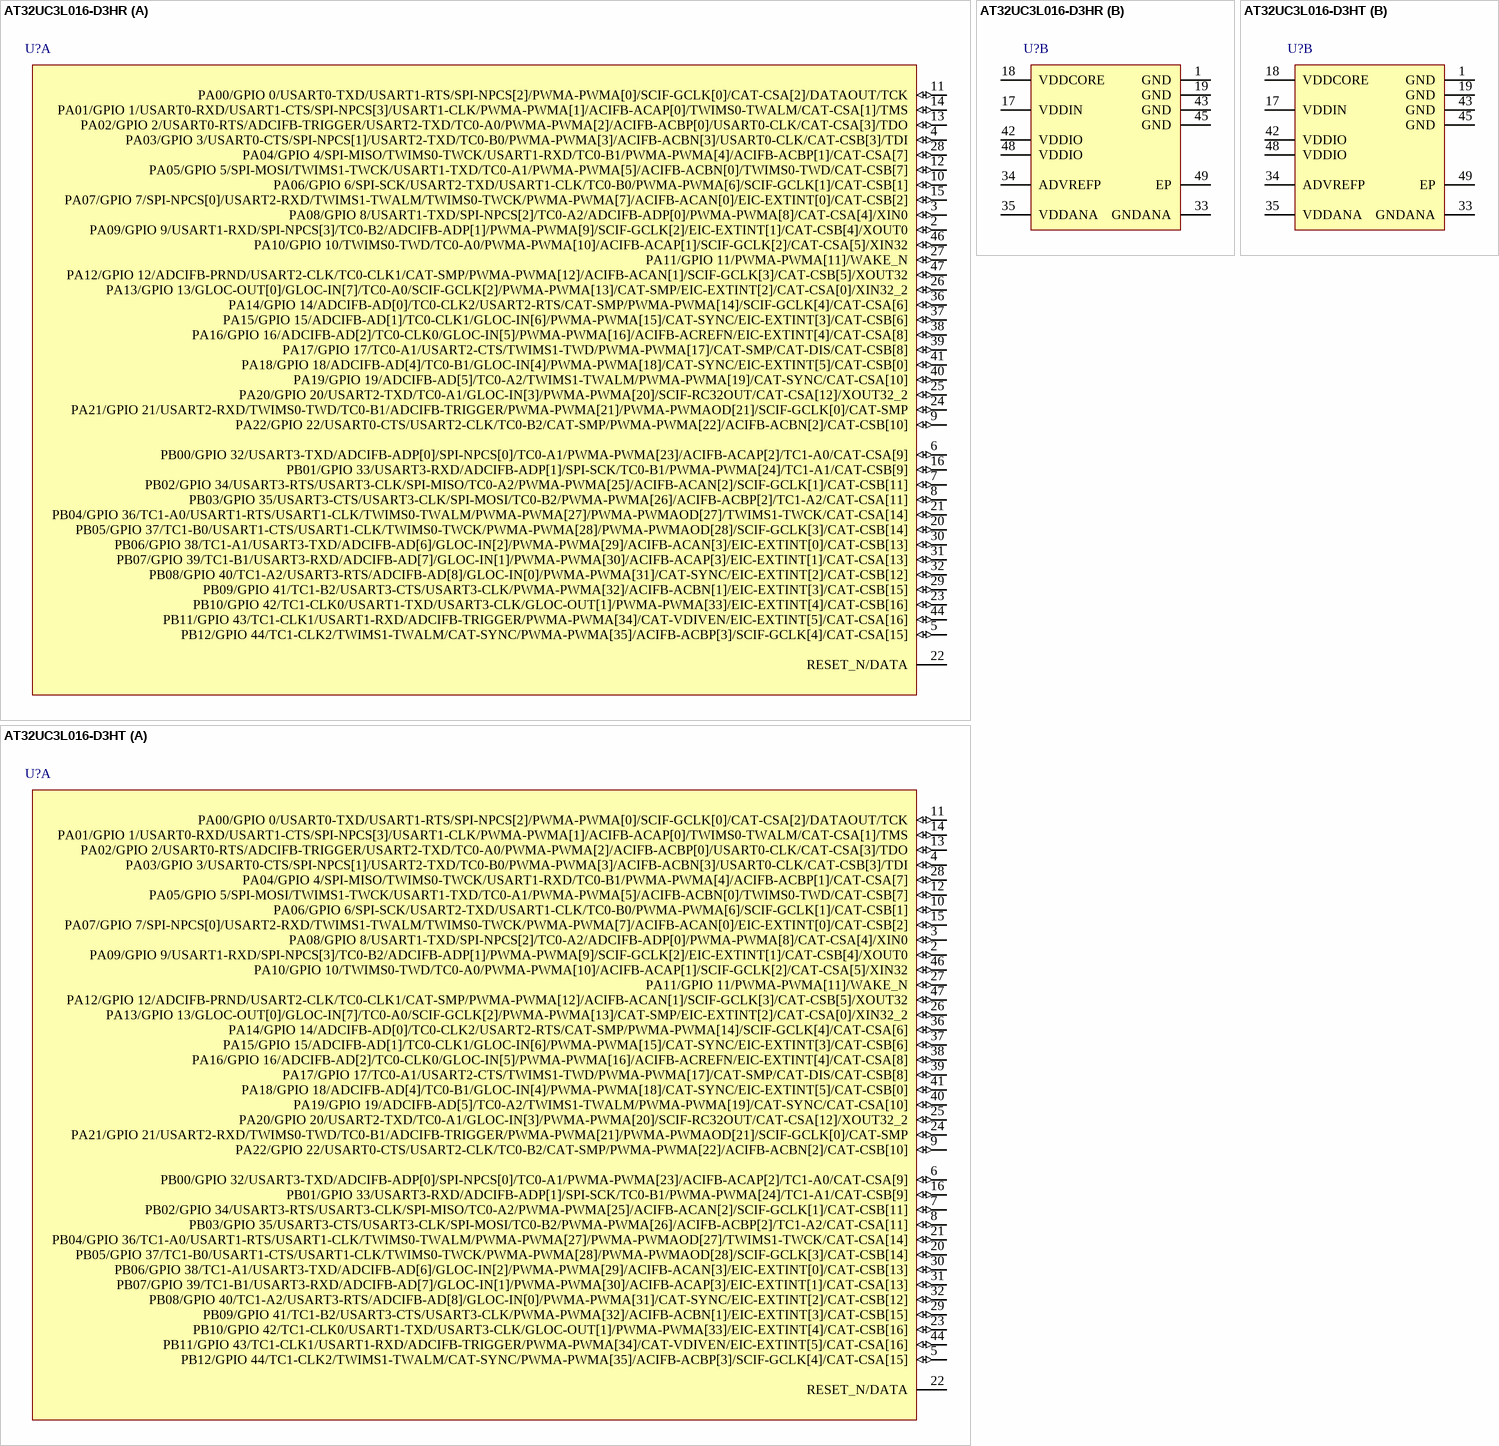
[diagram p94: symbols AT32UC3L016-D3HR to AT32UC3L016-D3HT]

## AT32UC3L016-D3HR
designator U?
32-bit AVR UC3 Microcontroller, 16KB Flash, 8KB SRAM, 36 GPIO pins, Industrial Grade, 48-Pin TLLGA, Reel; DatasheetVersion: revG, Jul-2011; PackageVersion: 2011; PackageReference: TLLGA48; PackageDescription: 48-Pin Quad Flat No-Lead, Punched, 5.5 x 5.5 x 0.55 mm Body, 0.5 mm Pitch, Exposed Pad; ComponentLink1Description: Manufacturer URL; ComponentLink1URL: http://www.atmel.com/; ComponentLink2Description: AT32UC3L Datasheet; ComponentLink2URL: http://www.atmel.com/dyn/resources/prod_documents/doc32099.pdf; ComponentLink3Description: AT32UC3L Summary; ComponentLink3URL: http://www.atmel.com/dyn/resources/prod_documents/32099S.pdf
footprint TLLGA48_N (QFN, 48-Leads, Body 5.5x5.5mm, Pitch 0.4mm, Thermal Pad 4.5x4.5mm, IPC Medium Density)
footprint TLLGA48_L (QFN, 48-Leads, Body 5.5x5.5mm, Pitch 0.4mm, Thermal Pad 4.5x4.5mm, IPC High Density)
footprint TLLGA48_M (QFN, 48-Leads, Body 5.5x5.5mm, Pitch 0.4mm, Thermal Pad 4.5x4.5mm, IPC Low Density)
part A pins: 2 PA09/GPIO 9/USART1-RXD/SPI-NPCS[3]/TC0-B2/ADCIFB-ADP[1]/PWMA-PWMA[9]/SCIF-GCLK[2]/EIC-EXTINT[1]/CAT-CSB[4]/XOUT0 (io), 3 PA08/GPIO 8/USART1-TXD/SPI-NPCS[2]/TC0-A2/ADCIFB-ADP[0]/PWMA-PWMA[8]/CAT-CSA[4]/XIN0 (io), 4 PA03/GPIO 3/USART0-CTS/SPI-NPCS[1]/USART2-TXD/TC0-B0/PWMA-PWMA[3]/ACIFB-ACBN[3]/USART0-CLK/CAT-CSB[3]/TDI (io), 5 PB12/GPIO 44/TC1-CLK2/TWIMS1-TWALM/CAT-SYNC/PWMA-PWMA[35]/ACIFB-ACBP[3]/SCIF-GCLK[4]/CAT-CSA[15] (io), 6 PB00/GPIO 32/USART3-TXD/ADCIFB-ADP[0]/SPI-NPCS[0]/TC0-A1/PWMA-PWMA[23]/ACIFB-ACAP[2]/TC1-A0/CAT-CSA[9] (io), 7 PB02/GPIO 34/USART3-RTS/USART3-CLK/SPI-MISO/TC0-A2/PWMA-PWMA[25]/ACIFB-ACAN[2]/SCIF-GCLK[1]/CAT-CSB[11] (io), 8 PB03/GPIO 35/USART3-CTS/USART3-CLK/SPI-MOSI/TC0-B2/PWMA-PWMA[26]/ACIFB-ACBP[2]/TC1-A2/CAT-CSA[11] (io), 9 PA22/GPIO 22/USART0-CTS/USART2-CLK/TC0-B2/CAT-SMP/PWMA-PWMA[22]/ACIFB-ACBN[2]/CAT-CSB[10] (io), 10 PA06/GPIO 6/SPI-SCK/USART2-TXD/USART1-CLK/TC0-B0/PWMA-PWMA[6]/SCIF-GCLK[1]/CAT-CSB[1] (io), 11 PA00/GPIO 0/USART0-TXD/USART1-RTS/SPI-NPCS[2]/PWMA-PWMA[0]/SCIF-GCLK[0]/CAT-CSA[2]/DATAOUT/TCK (io), 12 PA05/GPIO 5/SPI-MOSI/TWIMS1-TWCK/USART1-TXD/TC0-A1/PWMA-PWMA[5]/ACIFB-ACBN[0]/TWIMS0-TWD/CAT-CSB[7] (io), 13 PA02/GPIO 2/USART0-RTS/ADCIFB-TRIGGER/USART2-TXD/TC0-A0/PWMA-PWMA[2]/ACIFB-ACBP[0]/USART0-CLK/CAT-CSA[3]/TDO (io), 14 PA01/GPIO 1/USART0-RXD/USART1-CTS/SPI-NPCS[3]/USART1-CLK/PWMA-PWMA[1]/ACIFB-ACAP[0]/TWIMS0-TWALM/CAT-CSA[1]/TMS (io), 15 PA07/GPIO 7/SPI-NPCS[0]/USART2-RXD/TWIMS1-TWALM/TWIMS0-TWCK/PWMA-PWMA[7]/ACIFB-ACAN[0]/EIC-EXTINT[0]/CAT-CSB[2] (io), 16 PB01/GPIO 33/USART3-RXD/ADCIFB-ADP[1]/SPI-SCK/TC0-B1/PWMA-PWMA[24]/TC1-A1/CAT-CSB[9] (io), 20 PB05/GPIO 37/TC1-B0/USART1-CTS/USART1-CLK/TWIMS0-TWCK/PWMA-PWMA[28]/PWMA-PWMAOD[28]/SCIF-GCLK[3]/CAT-CSB[14] (io), 21 PB04/GPIO 36/TC1-A0/USART1-RTS/USART1-CLK/TWIMS0-TWALM/PWMA-PWMA[27]/PWMA-PWMAOD[27]/TWIMS1-TWCK/CAT-CSA[14] (io), 22 RESET_N/DATA (power), 23 PB10/GPIO 42/TC1-CLK0/USART1-TXD/USART3-CLK/GLOC-OUT[1]/PWMA-PWMA[33]/EIC-EXTINT[4]/CAT-CSB[16] (io), 24 PA21/GPIO 21/USART2-RXD/TWIMS0-TWD/TC0-B1/ADCIFB-TRIGGER/PWMA-PWMA[21]/PWMA-PWMAOD[21]/SCIF-GCLK[0]/CAT-SMP (io), 25 PA20/GPIO 20/USART2-TXD/TC0-A1/GLOC-IN[3]/PWMA-PWMA[20]/SCIF-RC32OUT/CAT-CSA[12]/XOUT32_2 (io), 26 PA13/GPIO 13/GLOC-OUT[0]/GLOC-IN[7]/TC0-A0/SCIF-GCLK[2]/PWMA-PWMA[13]/CAT-SMP/EIC-EXTINT[2]/CAT-CSA[0]/XIN32_2 (io), 27 PA11/GPIO 11/PWMA-PWMA[11]/WAKE_N (io), 28 PA04/GPIO 4/SPI-MISO/TWIMS0-TWCK/USART1-RXD/TC0-B1/PWMA-PWMA[4]/ACIFB-ACBP[1]/CAT-CSA[7] (io), 29 PB09/GPIO 41/TC1-B2/USART3-CTS/USART3-CLK/PWMA-PWMA[32]/ACIFB-ACBN[1]/EIC-EXTINT[3]/CAT-CSB[15] (io), 30 PB06/GPIO 38/TC1-A1/USART3-TXD/ADCIFB-AD[6]/GLOC-IN[2]/PWMA-PWMA[29]/ACIFB-ACAN[3]/EIC-EXTINT[0]/CAT-CSB[13] (io), 31 PB07/GPIO 39/TC1-B1/USART3-RXD/ADCIFB-AD[7]/GLOC-IN[1]/PWMA-PWMA[30]/ACIFB-ACAP[3]/EIC-EXTINT[1]/CAT-CSA[13] (io), 32 PB08/GPIO 40/TC1-A2/USART3-RTS/ADCIFB-AD[8]/GLOC-IN[0]/PWMA-PWMA[31]/CAT-SYNC/EIC-EXTINT[2]/CAT-CSB[12] (io), 36 PA14/GPIO 14/ADCIFB-AD[0]/TC0-CLK2/USART2-RTS/CAT-SMP/PWMA-PWMA[14]/SCIF-GCLK[4]/CAT-CSA[6] (io), 37 PA15/GPIO 15/ADCIFB-AD[1]/TC0-CLK1/GLOC-IN[6]/PWMA-PWMA[15]/CAT-SYNC/EIC-EXTINT[3]/CAT-CSB[6] (io), 38 PA16/GPIO 16/ADCIFB-AD[2]/TC0-CLK0/GLOC-IN[5]/PWMA-PWMA[16]/ACIFB-ACREFN/EIC-EXTINT[4]/CAT-CSA[8] (io), 39 PA17/GPIO 17/TC0-A1/USART2-CTS/TWIMS1-TWD/PWMA-PWMA[17]/CAT-SMP/CAT-DIS/CAT-CSB[8] (io), 40 PA19/GPIO 19/ADCIFB-AD[5]/TC0-A2/TWIMS1-TWALM/PWMA-PWMA[19]/CAT-SYNC/CAT-CSA[10] (io), 41 PA18/GPIO 18/ADCIFB-AD[4]/TC0-B1/GLOC-IN[4]/PWMA-PWMA[18]/CAT-SYNC/EIC-EXTINT[5]/CAT-CSB[0] (io), 44 PB11/GPIO 43/TC1-CLK1/USART1-RXD/ADCIFB-TRIGGER/PWMA-PWMA[34]/CAT-VDIVEN/EIC-EXTINT[5]/CAT-CSA[16] (io), 46 PA10/GPIO 10/TWIMS0-TWD/TC0-A0/PWMA-PWMA[10]/ACIFB-ACAP[1]/SCIF-GCLK[2]/CAT-CSA[5]/XIN32 (io), 47 PA12/GPIO 12/ADCIFB-PRND/USART2-CLK/TC0-CLK1/CAT-SMP/PWMA-PWMA[12]/ACIFB-ACAN[1]/SCIF-GCLK[3]/CAT-CSB[5]/XOUT32 (io)
part B pins: 1 GND (power), 17 VDDIN (power), 18 VDDCORE (power), 19 GND (power), 33 GNDANA (power), 34 ADVREFP (power), 35 VDDANA (power), 42 VDDIO (power), 43 GND (power), 45 GND (power), 48 VDDIO (power), 49 EP (power)